# Altium schematic symbol library My Footprint.SchLib: 232 symbols (part 1 of 2)
Pins are listed as number, name and electrical type; pins without a type are passive.

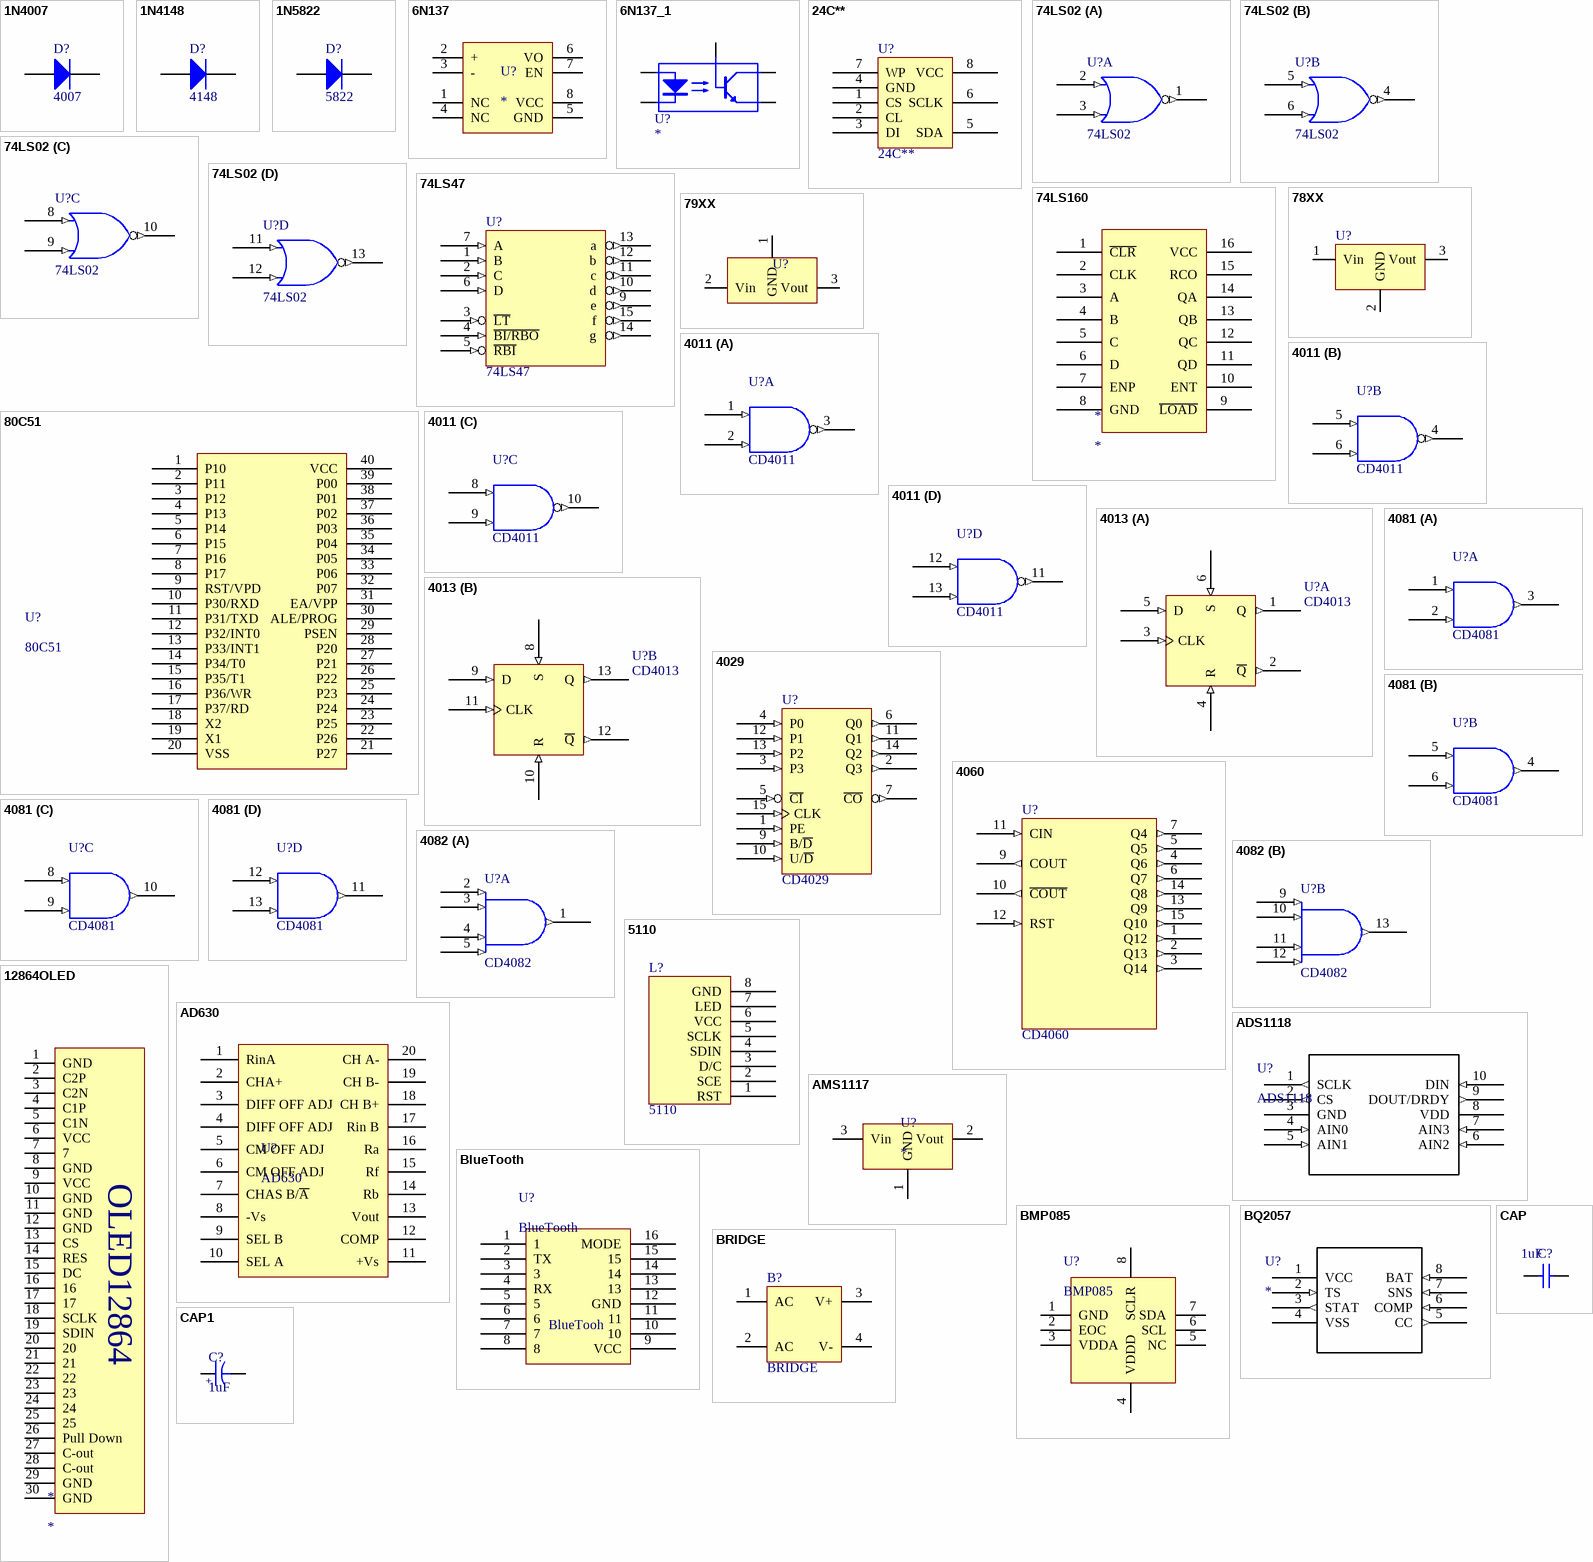
[diagram p0: symbols 1N4007 to CAP1]

## 1N4007
designator D?, comment 4007
High Conductance Fast Diode; Published: 8-Jun-2000; LatestRevisionDate: 17-Jul-2002; LatestRevisionNote: Re-released for DXP Platform.; DatasheetDocument: 1997; PackageReference: DO-35; Publisher: Altium Limited; Code_JEDEC: DO-204-AH; ComponentLink1Description: Manufacturer Link; ComponentLink1URL: http://www.fairchildsemi.com/; ComponentLink2Description: Datasheet; ComponentLink2URL: http://www.fairchildsemi.com/ds/1N%2F1N4448.pdf
footprint DIODE-4007 (1N4007)
pins: 1 A, 2 K

## 1N4148
designator D?, comment 4148
High Conductance Fast Diode; Published: 8-Jun-2000; LatestRevisionDate: 17-Jul-2002; LatestRevisionNote: Re-released for DXP Platform.; DatasheetDocument: 1997; PackageReference: DO-35; Publisher: Altium Limited; Code_JEDEC: DO-204-AH; ComponentLink1Description: Manufacturer Link; ComponentLink1URL: http://www.fairchildsemi.com/; ComponentLink2Description: Datasheet; ComponentLink2URL: http://www.fairchildsemi.com/ds/1N%2F1N4448.pdf
footprint diode-4148 (1N4148)
footprint DIODE_SOIC (Magnetic-Core Inductor with Winding Polarity Marking; 2 Leads)
pins: 1 A, 2 K

## 1N5822
designator D?, comment 5822
5822,5408,5819大的封装; Published: 8-Jun-2000; LatestRevisionDate: 17-Jul-2002; LatestRevisionNote: Re-released for DXP Platform.; DatasheetDocument: 1997; PackageReference: DO-35; Publisher: Altium Limited; Code_JEDEC: DO-204-AH; ComponentLink1Description: Manufacturer Link; ComponentLink1URL: http://www.fairchildsemi.com/; ComponentLink2Description: Datasheet; ComponentLink2URL: http://www.fairchildsemi.com/ds/1N%2F1N4448.pdf
footprint DIODE-0.7 (5822,5819,5408)
pins: 1 A, 2 K

## 6N137
designator U?
光耦
footprint dip-8
pins: 1 NC, 2 +, 3 -, 4 NC, 5 GND, 6 VO, 7 EN, 8 VCC

## 6N137_1
designator U?
Opto Isolator
simulation model 6N137 (SUBCKT)
footprint DIP6
pins: 1 LED Anode, 2 LED Cathode, 3 empty (hiz) hidden to empty, 4 Emitter, 5 Collector, 6 Base

## 24C**
designator U?
footprint DIP-8
pins: 1 CS, 2 CL, 3 DI, 4 GND, 5 SDA, 6 SCLK, 7 WP, 8 VCC

## 74LS02
designator U?
footprint DIP-14
part A pins: 1 (out), 2 (in), 3 (in)
part B pins: 4 (out), 5 (in), 6 (in)
part C pins: 8 (in), 9 (in), 10 (out)
part D pins: 7 GND (power) hidden to GND, 11 (in), 12 (in), 13 (out), 14 VCC (power) hidden to VCC

## 74LS47
designator U?
footprint DIP-16
pins: 1 B (in), 2 C (in), 3 ~{LT} (in), 4 ~{BI/RBO} (in), 5 ~{RBI} (in), 6 D (in), 7 A (in), 8 GND (power) hidden to GND, 9 e (out), 10 d (out), 11 c (out), 12 b (out), 13 a (out), 14 g (out), 15 f (out), 16 VCC (power) hidden to VCC

## 74LS160
designator *
footprint DIP-16
pins: 1 ~{CLR}, 2 CLK, 3 A, 4 B, 5 C, 6 D, 7 ENP, 8 GND, 9 ~{LOAD}, 10 ENT, 11 QD, 12 QC, 13 QB, 14 QA, 15 RCO, 16 VCC

## 78XX
designator U?  (value not drawn)
三端稳压器
footprint TO-220-3_DS (大散热片的封装)
footprint TO-220-3_SS (小散热片的封装)
pins: 1 Vin, 2 GND, 3 Vout

## 79XX
designator U?  (value not drawn)
三端稳压器
footprint TO-220-3_DS (大散热片的封装)
footprint TO-220-3_SS (小散热片的封装)
pins: 1 GND, 2 Vin, 3 Vout

## 80C51
designator U?
MCU_P40
footprint 80C51 (MCU_P40)
pins: 1 P10, 2 P11, 3 P12, 4 P13, 5 P14, 6 P15, 7 P16, 8 P17, 9 RST/VPD, 10 P30/RXD, 11 P31/TXD, 12 P32/INT0, 13 P33/INT1, 14 P34/T0, 15 P35/T1, 16 P36/WR, 17 P37/RD, 18 X2, 19 X1, 20 VSS, 21 P27, 22 P26, 23 P25, 24 P24, 25 P23, 26 P22, 27 P21, 28 P20, 29 PSEN, 30 ALE/PROG, 31 EA/VPP, 32 P07, 33 P06, 34 P05, 35 P04, 36 P03, 37 P02, 38 P01, 39 P00, 40 VCC

## 4011
designator U?, comment CD4011
footprint DIP-14
part A pins: 1 (in), 2 (in), 3 (out)
part B pins: 4 (out), 5 (in), 6 (in)
part C pins: 8 (in), 9 (in), 10 (out)
part D pins: 7 GND (power) hidden to GND, 11 (out), 12 (in), 13 (in), 14 VCC (power) hidden to VCC

## 4013
designator U?, comment CD4013
footprint DIP-14
part A pins: 1 Q (out), 2 ~{Q} (out), 3 CLK (in), 4 R (in), 5 D (in), 6 S (in), 7 GND (power) hidden to GND, 14 VCC (power) hidden to VCC
part B pins: 8 S (in), 9 D (in), 10 R (in), 11 CLK (in), 12 ~{Q} (out), 13 Q (out)

## 4029
designator U?, comment CD4029
footprint DIP-16
pins: 1 PE (in), 2 Q3 (out), 3 P3 (in), 4 P0 (in), 5 ~{CI} (in), 6 Q0 (out), 7 ~{CO} (out), 8 GND (power) hidden to GND, 9 B/~{D} (in), 10 U/~{D} (in), 11 Q1 (out), 12 P1 (in), 13 P2 (in), 14 Q2 (out), 15 CLK (in), 16 VCC (power) hidden to VCC

## 4060
designator U?, comment CD4060
footprint DIP-16
pins: 1 Q12 (out), 2 Q13 (out), 3 Q14 (out), 4 Q6 (out), 5 Q5 (out), 6 Q7 (out), 7 Q4 (out), 8 GND (power) hidden to GND, 9 COUT (out), 10 ~{COUT} (out), 11 CIN (in), 12 RST (in), 13 Q9 (out), 14 Q8 (out), 15 Q10 (out), 16 VCC (power) hidden to VCC

## 4081
designator U?, comment CD4081
footprint DIP-14
part A pins: 1 (in), 2 (in), 3 (out), 7 GND (power) hidden to GND, 14 VCC (power) hidden to VCC
part B pins: 4 (out), 5 (in), 6 (in)
part C pins: 8 (in), 9 (in), 10 (out)
part D pins: 11 (out), 12 (in), 13 (in)

## 4082
designator U?, comment CD4082
footprint DIP-14
part A pins: 1 (out), 2 (in), 3 (in), 4 (in), 5 (in)
part B pins: 7 GND (power) hidden to GND, 9 (in), 10 (in), 11 (in), 12 (in), 13 (out), 14 VCC (power) hidden to VCC

## 5110
designator L?
footprint LCD5110
pins: 1 RST, 2 SCE, 3 D/C, 4 SDIN, 5 SCLK, 6 VCC, 7 LED, 8 GND

## 12864OLED
designator *
footprint 12864OLED
pins: 1 GND, 2 C2P, 3 C2N, 4 C1P, 5 C1N, 6 VCC, 7, 8 GND, 9 VCC, 10 GND, 11 GND, 12 GND, 13 CS, 14 RES, 15 DC, 16, 17, 18 SCLK, 19 SDIN, 20, 21, 22, 23, 24, 25, 26 Pull Down, 27 C-out, 28 C-out, 29 GND, 30 GND
text: OLED12864

## AD630
designator U?
footprint DIP-20
pins: 1 RinA, 2 CHA+, 3 DIFF OFF ADJ, 4 DIFF OFF ADJ, 5 CM OFF ADJ, 6 CM OFF ADJ, 7 CHAS B/~{A}, 8 -Vs, 9 SEL B, 10 SEL A, 11 +Vs, 12 COMP, 13 Vout, 14 Rb, 15 Rf, 16 Ra, 17 Rin B, 18 CH B+, 19 CH B-, 20 CH A-

## ADS1118
designator U?
Imported; Manufacturer: Texas Instruments; INDUSTRY_STD_PKG_TYPE: MSOP; FAMILY_NAME: PRECISION ADC (<=10MSPS); PIN_COUNT: 10; PACKAGE_DESIGNATOR: DGS; Datasheet URL: http://www.ti.com/lit/gpn/ADS1118; GENERIC_PART_NUMBER: ADS1118; RefDes: RefDes; Type: DEV; Value: Value
footprint DGS10
pins: 1 SCLK (out), 2 CS (out), 3 GND (power), 4 AIN0 (in), 5 AIN1 (in), 6 AIN2 (in), 7 AIN3 (in), 8 VDD (power), 9 DOUT/DRDY (out), 10 DIN (in)

## AMS1117
designator U?
3.3V电压转换器AMS1117
footprint SOT-223 (ASM1117系列)
pins: 1 GND, 2 Vout, 3 Vin

## BlueTooth
designator U?
footprint BlueTooh
pins: 1, 2 TX, 3, 4 RX, 5, 6, 7, 8, 9 VCC, 10, 11, 12 GND, 13, 14, 15, 16 MODE
text: BlueTooh

## BMP085
designator U?
footprint LCC-8
pins: 1 GND, 2 EOC, 3 VDDA, 4 VDDD, 5 NC, 6 SCL, 7 SDA, 8 SCLR

## BQ2057
designator U?
Imported; Manufacturer: Texas Instruments; GENERIC_PART_NUMBER: BQ2057; INDUSTRY_STD_PKG_TYPE: SOIC; FAMILY_NAME: BATTERY CHARGE MANAGEMENT; PIN_COUNT: 8; PACKAGE_DESIGNATOR: D; Datasheet URL: http://www.ti.com/lit/gpn/BQ2057; RefDes: RefDes; Type: DEV; Value: Value
footprint SOIC-8N (SOIC, 8-Leads, Body 4.9x3.9mm, Pitch 1.27mm, IPC Medium Density)
pins: 1 VCC (power), 2 TS (in), 3 STAT (out), 4 VSS (power), 5 CC (out), 6 COMP (in), 7 SNS (in), 8 BAT (in)

## BRIDGE
designator B?
Diode Bridge
footprint BRIDGE
pins: 1 AC, 2 AC, 3 V+, 4 V-
2 alternate drawings of the same symbol

## CAP
designator C?, comment 1uF
Capacitor; Value: 104; Published: 8-Jun-2000; LatestRevisionDate: 17-Jul-2002; LatestRevisionNote: Re-released for DXP Platform.; PackageReference: RAD-0.3; Publisher: Altium Limited
footprint 0805_c
footprint 0603_C (Capacitor)
footprint CD1 (瓷片、独石)
footprint 安规电容
pins: 1, 2

## CAP1
designator C?, comment 1uF
footprint CD1 (瓷片、独石)
footprint CD2 (CBB)
footprint CD4 (1uF50V大小)
footprint CD7 (680uF容值以下耐压25V)
footprint CD9 (1000uF电容25V左右)
footprint CD10 (1000uF35V耐压)
footprint CD12 (2200uF 及以上35V以上耐压)
footprint CD15
pins: 1, 2
text: +

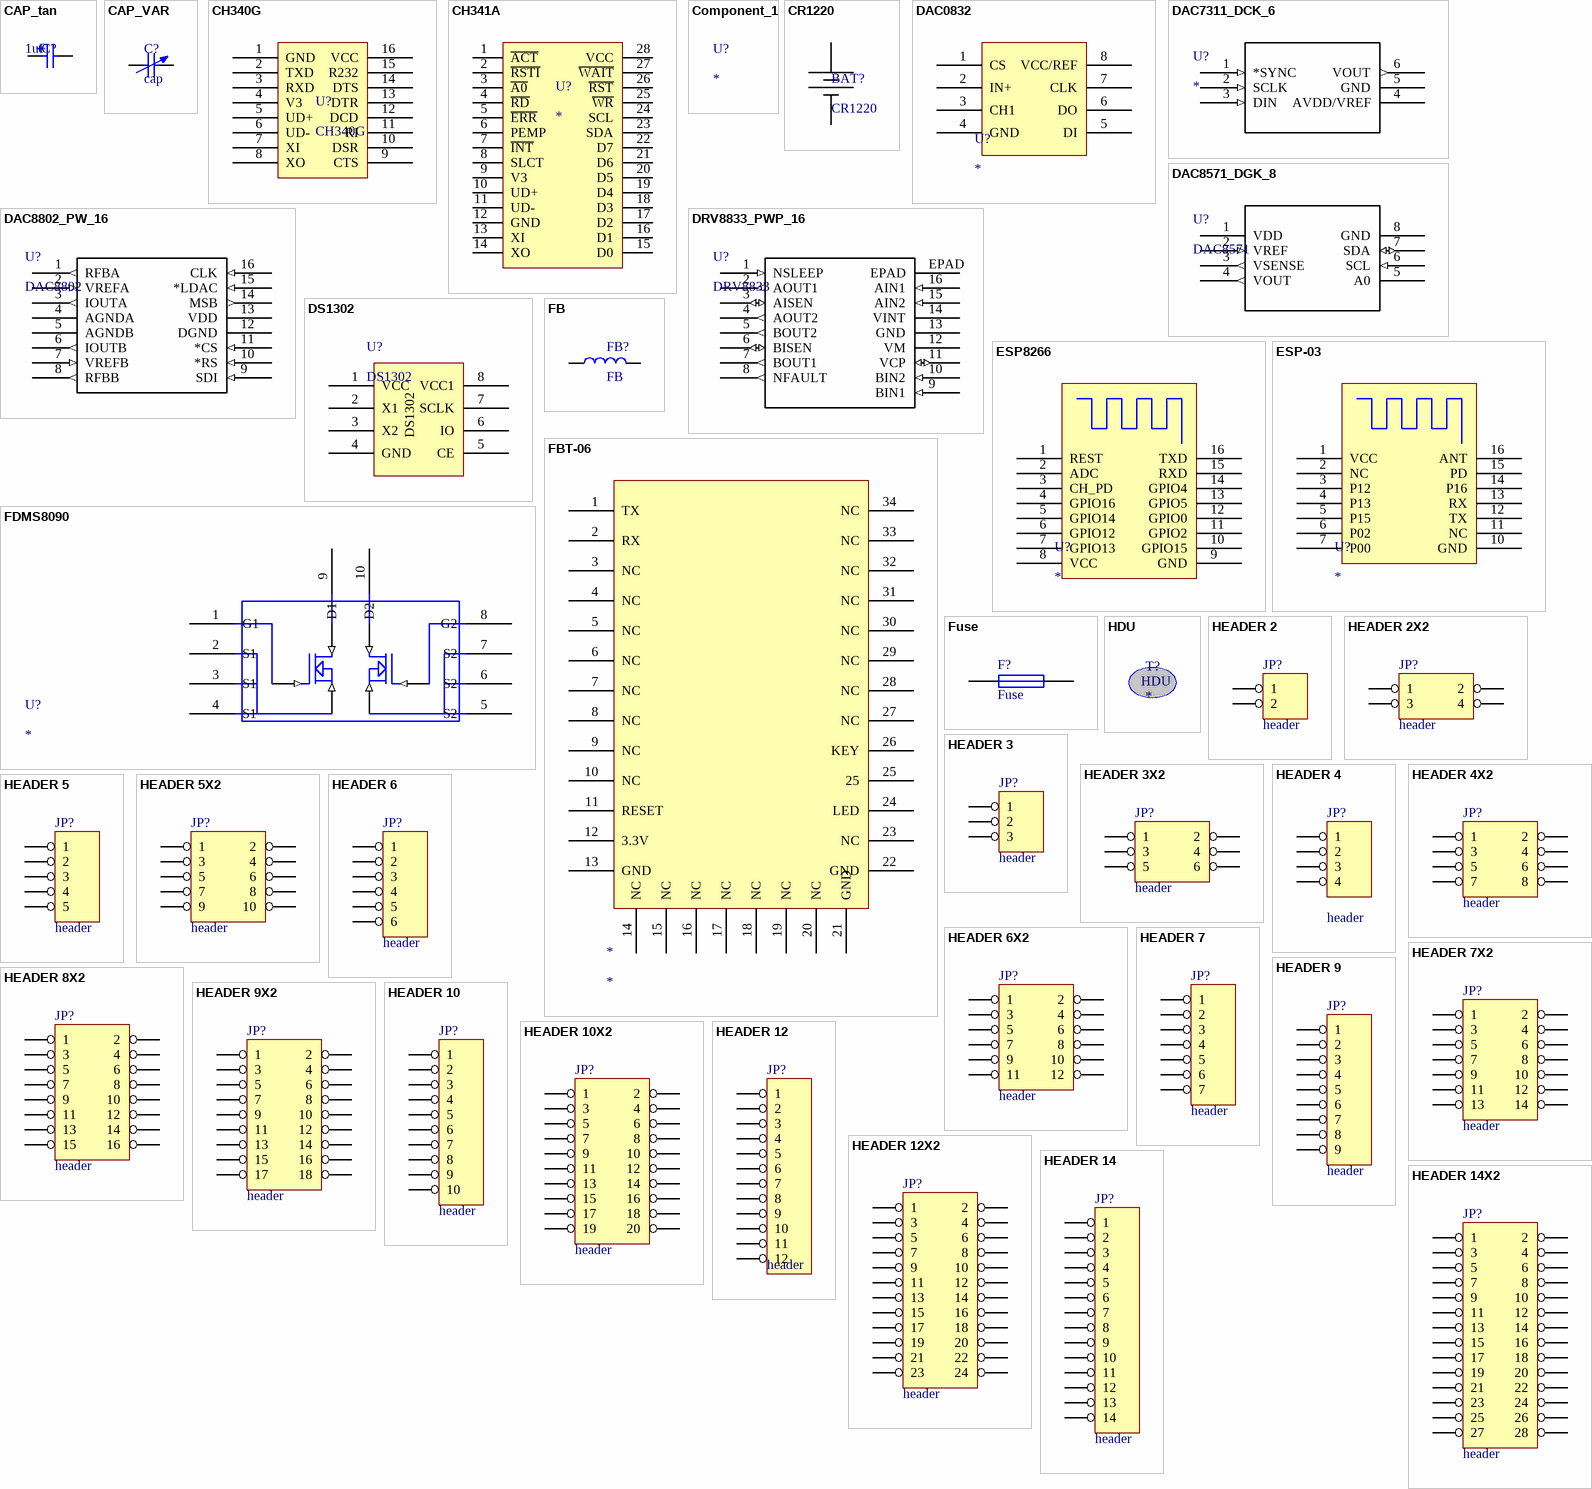
[diagram p1: symbols CAP_tan to HEADER 14X2]

## CAP_tan
designator C?, comment 1uF
Capacitor; Value: 104; Published: 8-Jun-2000; LatestRevisionDate: 17-Jul-2002; LatestRevisionNote: Re-released for DXP Platform.; PackageReference: RAD-0.3; Publisher: Altium Limited
footprint CAPC3216A
footprint CAPC3528B
footprint CAPC6032C
footprint CAPC7343D
footprint CAPC7343E
pins: 1, 2

## CAP_VAR
designator C?, comment cap
footprint CAP_VAR
pins: 1, 2

## CH340G
designator U?
SOIC
footprint SOIC-16
pins: 1 GND, 2 TXD, 3 RXD, 4 V3, 5 UD+, 6 UD-, 7 XI, 8 XO, 9 CTS, 10 DSR, 11 RI, 12 DCD, 13 DTR, 14 DTS, 15 R232, 16 VCC

## CH341A
designator U?
footprint SOP28
footprint SOP28
pins: 1 ~{ACT}, 2 ~{RSTI}, 3 ~{A0}, 4 ~{RD}, 5 ~{ERR}, 6 PEMP, 7 ~{INT}, 8 SLCT, 9 V3, 10 UD+, 11 UD-, 12 GND, 13 XI, 14 XO, 15 D0, 16 D1, 17 D2, 18 D3, 19 D4, 20 D5, 21 D6, 22 D7, 23 SDA, 24 SCL, 25 ~{WR}, 26 ~{RST}, 27 ~{WAIT}, 28 VCC

## Component_1
designator U?

## CR1220
designator BAT?
footprint 纽扣电池座CR1220 (小的)
pins: 1 BAT+, 2 BAT-

## DAC0832
designator U?
footprint DIP-8
pins: 1 CS, 2 IN+, 3 CH1, 4 GND, 5 DI, 6 DO, 7 CLK, 8 VCC/REF

## DAC7311_DCK_6
designator U?
Imported; Manufacturer: Texas Instruments; GENERIC_PART_NUMBER: DAC7311; Manufacturer_Part_Number: dac7311_dck_6; INDUSTRY_STD_PKG_TYPE: SC70; FAMILY_NAME: PRECISION DAC (=<10MSPS); PIN_COUNT: 6; PACKAGE_DESIGNATOR: DCK; Datasheet URL: http://www.ti.com/lit/gpn/DAC7311; Vendor: Texas Instruments; RefDes: RefDes; Type: DEV; Value: Value
footprint DCK6
pins: 1 *SYNC (in), 2 SCLK (in), 3 DIN (in), 4 AVDD/VREF (power), 5 GND (power), 6 VOUT (out)

## DAC8571_DGK_8
designator U?, comment DAC8571
Imported; Manufacturer: Texas Instruments; Manufacturer_Part_Number: dac8571_dgk_8; INDUSTRY_STD_PKG_TYPE: MSOP; FAMILY_NAME: PRECISION DAC (=<10MSPS); PIN_COUNT: 8; PACKAGE_DESIGNATOR: DGK; Datasheet URL: http://www.ti.com/lit/gpn/DAC8571; GENERIC_PART_NUMBER: DAC8571; Vendor: Texas Instruments; RefDes: RefDes; Type: DEV; Value: Value
footprint DGK8
pins: 1 VDD (power), 2 VREF (in), 3 VSENSE (out), 4 VOUT (out), 5 A0, 6 SCL (in), 7 SDA (io), 8 GND (power)

## DAC8802_PW_16
designator U?, comment DAC8802
Imported; Manufacturer: Texas Instruments; Manufacturer_Part_Number: dac8802_pw_16; INDUSTRY_STD_PKG_TYPE: TSSOP; FAMILY_NAME: PRECISION DAC (=<10MSPS); PIN_COUNT: 16; PACKAGE_DESIGNATOR: PW; Datasheet URL: http://www.ti.com/lit/gpn/DAC8802; GENERIC_PART_NUMBER: DAC8802; Vendor: Texas Instruments; RefDes: RefDes; Type: DEV; Value: Value
footprint PW16
pins: 1 RFBA (out), 2 VREFA (in), 3 IOUTA (out), 4 AGNDA (power), 5 AGNDB (power), 6 IOUTB (out), 7 VREFB (in), 8 RFBB (out), 9 SDI (in), 10 *RS (in), 11 *CS (in), 12 DGND (power), 13 VDD (power), 14 MSB (out), 15 *LDAC (in), 16 CLK (in)

## DRV8833_PWP_16
designator U?, comment DRV8833
Imported; Manufacturer: Texas Instruments; Manufacturer_Part_Number: drv8833_pwp_16; INDUSTRY_STD_PKG_TYPE: HTSSOP; FAMILY_NAME: BRUSHED DC DRIVER; PIN_COUNT: 16; PACKAGE_DESIGNATOR: PWP; Datasheet URL: http://www.ti.com/lit/gpn/DRV8833; GENERIC_PART_NUMBER: DRV8833; Vendor: Texas Instruments; RefDes: RefDes; Type: DEV; Value: Value
footprint PWP16
pins: 1 NSLEEP (in), 2 AOUT1 (out), 3 AISEN (io), 4 AOUT2 (out), 5 BOUT2 (out), 6 BISEN (io), 7 BOUT1 (out), 8 NFAULT (out), 9 BIN1 (in), 10 BIN2 (in), 11 VCP (io), 12 VM (power), 13 GND (power), 14 VINT (power), 15 AIN2 (in), 16 AIN1 (in), EPAD

## DS1302
designator U?
footprint SOIC-8
pins: 1 VCC, 2 X1, 3 X2, 4 GND, 5 CE, 6 IO, 7 SCLK, 8 VCC1

## ESP8266
designator U?
footprint ESP8266
pins: 1 REST, 2 ADC, 3 CH_PD, 4 GPIO16, 5 GPIO14, 6 GPIO12, 7 GPIO13, 8 VCC, 9 GND, 10 GPIO15, 11 GPIO2, 12 GPIO0, 13 GPIO5, 14 GPIO4, 15 RXD, 16 TXD

## ESP-03
designator U?
footprint ESP-03
pins: 1 VCC, 2 NC, 3 P12, 4 P13, 5 P15, 6 P02, 7 P00, 10 GND, 11 NC, 12 TX, 13 RX, 14 P16, 15 PD, 16 ANT

## FB
designator FB?
磁珠
footprint 0603
footprint 0805
pins: 1, 2

## FBT-06
designator *
footprint FBT-06
pins: 1 TX, 2 RX, 3 NC, 4 NC, 5 NC, 6 NC, 7 NC, 8 NC, 9 NC, 10 NC, 11 RESET, 12 3.3V, 13 GND, 14 NC, 15 NC, 16 NC, 17 NC, 18 NC, 19 NC, 20 NC, 21 GND, 22 GND, 23 NC, 24 LED, 25, 26 KEY, 27 NC, 28 NC, 29 NC, 30 NC, 31 NC, 32 NC, 33 NC, 34 NC

## FDMS8090
designator U?
pins: 1 G (in), 1 G (in), 1 G1, 2 D (in), 2 D (in), 2 S1, 3 S (in), 3 S (in), 3 S1, 4 S1, 5 S2, 6 S2, 7 S2, 8 G2, 9 D1, 10 D2

## Fuse
designator F?
Published: 8-Jun-2000; LatestRevisionDate: 17-Jul-2002; LatestRevisionNote: Re-released for DXP Platform.; PackageReference: PIN-W2/E2.8; Publisher: Altium Limited
footprint fuse
footprint 1206
footprint 0805
pins: 1, 2

## HDU
designator T?
footprint HDU

## HEADER 2
designator JP?, comment header
footprint header2
footprint header2HA
pins: 1, 2

## HEADER 2X2
designator JP?, comment header
footprint header2X2
footprint header2X2HA
pins: 1, 2, 3, 4

## HEADER 3
designator JP?, comment header
footprint header3
footprint header3HA
pins: 1, 2, 3

## HEADER 3X2
designator JP?, comment header
footprint header2X3
footprint header2X3HA
pins: 1, 2, 3, 4, 5, 6

## HEADER 4
designator JP?, comment header
footprint header4
pins: 1, 2, 3, 4

## HEADER 4X2
designator JP?, comment header
footprint header2X4
footprint header2X4HA
pins: 1, 2, 3, 4, 5, 6, 7, 8

## HEADER 5
designator JP?, comment header
footprint header5
footprint header5HA
pins: 1, 2, 3, 4, 5

## HEADER 5X2
designator JP?, comment header
footprint header2X5HA
footprint header2X5
pins: 1, 2, 3, 4, 5, 6, 7, 8, 9, 10

## HEADER 6
designator JP?, comment header
footprint header6HA
footprint header6
pins: 1, 2, 3, 4, 5, 6

## HEADER 6X2
designator JP?, comment header
footprint header2X6HA
footprint header2X6
pins: 1, 2, 3, 4, 5, 6, 7, 8, 9, 10, 11, 12

## HEADER 7
designator JP?, comment header
footprint header7HA
footprint header7
pins: 1, 2, 3, 4, 5, 6, 7

## HEADER 7X2
designator JP?, comment header
footprint header2X7HA
footprint header2X7
pins: 1, 2, 3, 4, 5, 6, 7, 8, 9, 10, 11, 12, 13, 14

## HEADER 8X2
designator JP?, comment header
footprint header2X8HA
footprint header2X8
pins: 1, 2, 3, 4, 5, 6, 7, 8, 9, 10, 11, 12, 13, 14, 15, 16

## HEADER 9
designator JP?, comment header
footprint header9HA
footprint header9
pins: 1, 2, 3, 4, 5, 6, 7, 8, 9

## HEADER 9X2
designator JP?, comment header
footprint header2X9HA
footprint header2X9
pins: 1, 2, 3, 4, 5, 6, 7, 8, 9, 10, 11, 12, 13, 14, 15, 16, 17, 18

## HEADER 10
designator JP?, comment header
footprint header10HA
footprint header10
pins: 1, 2, 3, 4, 5, 6, 7, 8, 9, 10

## HEADER 10X2
designator JP?, comment header
footprint header2X10HA
footprint header2X10
pins: 1, 2, 3, 4, 5, 6, 7, 8, 9, 10, 11, 12, 13, 14, 15, 16, 17, 18, 19, 20

## HEADER 12
designator JP?, comment header
footprint header12HA
footprint header12
pins: 1, 2, 3, 4, 5, 6, 7, 8, 9, 10, 11, 12

## HEADER 12X2
designator JP?, comment header
footprint header2X12HA
footprint header2X12
pins: 1, 2, 3, 4, 5, 6, 7, 8, 9, 10, 11, 12, 13, 14, 15, 16, 17, 18, 19, 20, 21, 22, 23, 24

## HEADER 14
designator JP?, comment header
footprint header14HA
footprint header14
pins: 1, 2, 3, 4, 5, 6, 7, 8, 9, 10, 11, 12, 13, 14

## HEADER 14X2
designator JP?, comment header
footprint header2X14HA
footprint header2X14
pins: 1, 2, 3, 4, 5, 6, 7, 8, 9, 10, 11, 12, 13, 14, 15, 16, 17, 18, 19, 20, 21, 22, 23, 24, 25, 26, 27, 28

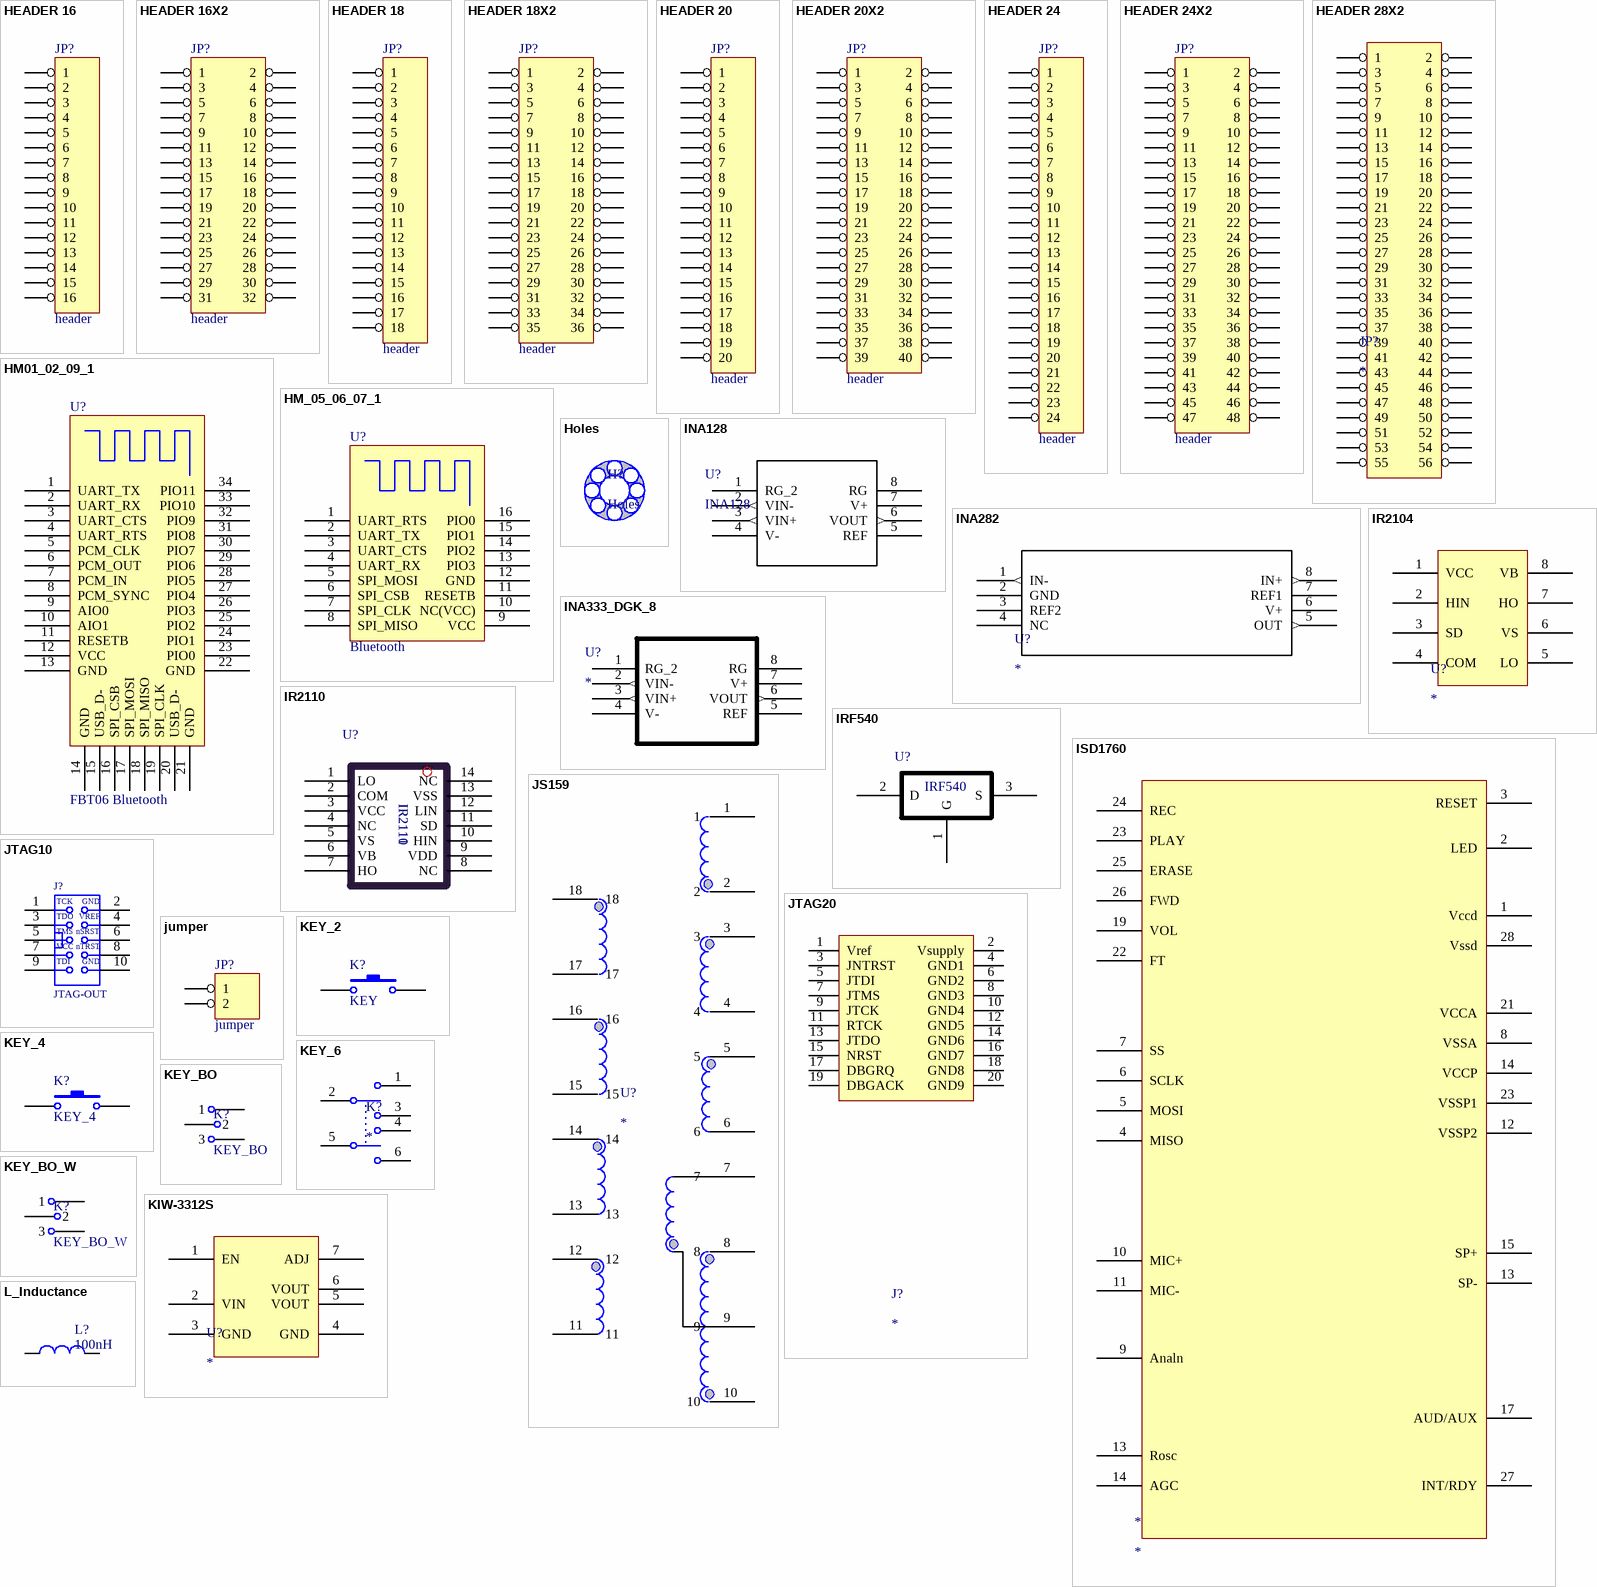
[diagram p2: symbols HEADER 16 to L_Inductance]

## HEADER 16
designator JP?, comment header
footprint header16
pins: 1, 2, 3, 4, 5, 6, 7, 8, 9, 10, 11, 12, 13, 14, 15, 16

## HEADER 16X2
designator JP?, comment header
footprint header2X16HA
footprint header2X16
pins: 1, 2, 3, 4, 5, 6, 7, 8, 9, 10, 11, 12, 13, 14, 15, 16, 17, 18, 19, 20, 21, 22, 23, 24, 25, 26, 27, 28, 29, 30, 31, 32

## HEADER 18
designator JP?, comment header
footprint header18_m
pins: 1, 2, 3, 4, 5, 6, 7, 8, 9, 10, 11, 12, 13, 14, 15, 16, 17, 18

## HEADER 18X2
designator JP?, comment header
footprint header2X18HA
footprint header2X18
pins: 1, 2, 3, 4, 5, 6, 7, 8, 9, 10, 11, 12, 13, 14, 15, 16, 17, 18, 19, 20, 21, 22, 23, 24, 25, 26, 27, 28, 29, 30, 31, 32, 33, 34, 35, 36

## HEADER 20
designator JP?, comment header
footprint header20HA
footprint header20
pins: 1, 2, 3, 4, 5, 6, 7, 8, 9, 10, 11, 12, 13, 14, 15, 16, 17, 18, 19, 20

## HEADER 20X2
designator JP?, comment header
footprint header2X20HA
footprint header2X20
pins: 1, 2, 3, 4, 5, 6, 7, 8, 9, 10, 11, 12, 13, 14, 15, 16, 17, 18, 19, 20, 21, 22, 23, 24, 25, 26, 27, 28, 29, 30, 31, 32, 33, 34, 35, 36, 37, 38, 39, 40

## HEADER 24
designator JP?, comment header
pins: 1, 2, 3, 4, 5, 6, 7, 8, 9, 10, 11, 12, 13, 14, 15, 16, 17, 18, 19, 20, 21, 22, 23, 24

## HEADER 24X2
designator JP?, comment header
footprint header2X24
pins: 1, 2, 3, 4, 5, 6, 7, 8, 9, 10, 11, 12, 13, 14, 15, 16, 17, 18, 19, 20, 21, 22, 23, 24, 25, 26, 27, 28, 29, 30, 31, 32, 33, 34, 35, 36, 37, 38, 39, 40, 41, 42, 43, 44, 45, 46, 47, 48

## HEADER 28X2
designator JP?
footprint 201S2X28
pins: 1, 2, 3, 4, 5, 6, 7, 8, 9, 10, 11, 12, 13, 14, 15, 16, 17, 18, 19, 20, 21, 22, 23, 24, 25, 26, 27, 28, 29, 30, 31, 32, 33, 34, 35, 36, 37, 38, 39, 40, 41, 42, 43, 44, 45, 46, 47, 48, 49, 50, 51, 52, 53, 54, 55, 56

## HM01_02_09_1
designator U?, comment FBT06 Bluetooth
HM bluetooth FBT06
footprint HM_01_02 (www.jnhuamao.cn)
pins: 1 UART_TX, 2 UART_RX, 3 UART_CTS, 4 UART_RTS, 5 PCM_CLK, 6 PCM_OUT, 7 PCM_IN, 8 PCM_SYNC, 9 AIO0, 10 AIO1, 11 RESETB, 12 VCC, 13 GND, 14 GND, 15 USB_D-, 16 SPI_CSB, 17 SPI_MOSI, 18 SPI_MISO, 19 SPI_CLK, 20 USB_D-, 21 GND, 22 GND, 23 PIO0, 24 PIO1, 25 PIO2, 26 PIO3, 27 PIO4, 28 PIO5, 29 PIO6, 30 PIO7, 31 PIO8, 32 PIO9, 33 PIO10, 34 PIO11

## HM_05_06_07_1
designator U?, comment Bluetooth
HM bluetooth module HM-05,HM-06,HM-07
footprint HM_05_06 (www.jnhuamao.cn)
pins: 1 UART_RTS, 2 UART_TX, 3 UART_CTS, 4 UART_RX, 5 SPI_MOSI, 6 SPI_CSB, 7 SPI_CLK, 8 SPI_MISO, 9 VCC, 10 NC(VCC), 11 RESETB, 12 GND, 13 PIO3, 14 PIO2, 15 PIO1, 16 PIO0

## Holes
designator H?
holes in the corner of the bord
footprint 定位孔 Φ3 1

## INA128
designator U?
Imported
footprint DIP-8
footprint SOIC-8
pins: 1 RG_2, 2 VIN- (out), 3 VIN+ (out), 4 V- (power), 5 REF, 6 VOUT (out), 7 V+ (power), 8 RG

## INA282
designator U?
footprint INA282
pins: 1 IN- (out), 2 GND (power), 3 REF2, 4 NC, 5 OUT (out), 6 V+ (power), 7 REF1, 8 IN+ (out)

## INA333_DGK_8
designator U?
Imported
footprint DGK8
pins: 1 RG_2, 2 VIN- (out), 3 VIN+ (out), 4 V- (power), 5 REF, 6 VOUT (out), 7 V+ (power), 8 RG

## IR2104
designator U?
pins: 1 VCC, 2 HIN, 3 SD, 4 COM, 5 LO, 6 VS, 7 HO, 8 VB

## IR2110
designator U?  (value not drawn)
footprint DIP-14
pins: 1 LO, 2 COM, 3 VCC, 4 NC, 5 VS, 6 VB, 7 HO, 8 NC, 9 VDD, 10 HIN, 11 SD, 12 LIN, 13 VSS, 14 NC
text: IR2111

## IRF540
designator U?  (value not drawn)
footprint TO220 (MOS 功率三极管封装)
pins: 1 G, 2 D, 3 S

## ISD1760
designator *
footprint N028 (DIP; 28 Leads; Row Spacing 15.24 mm; Pitch 2.54 mm)
pins: 1 Vccd, 2 LED, 3 RESET, 4 MISO, 5 MOSI, 6 SCLK, 7 SS, 8 VSSA, 9 Analn, 10 MIC+, 11 MIC-, 12 VSSP2, 13 Rosc, 13 SP-, 14 AGC, 14 VCCP, 15 SP+, 17 AUD/AUX, 19 VOL, 21 VCCA, 22 FT, 23 PLAY, 23 VSSP1, 24 REC, 25 ERASE, 26 FWD, 27 INT/RDY, 28 Vssd

## JS159
designator U?
pins: 1, 2, 3, 4, 5, 6, 7, 8, 9, 10, 11, 12, 13, 14, 15, 16, 17, 18

## JTAG10
designator J?, comment JTAG-OUT
接插件
footprint JTAG10 (AVR FPGA)
pins: 1, 2, 3, 4, 5, 6, 7, 8, 9, 10
text: TCK; GND; TDO; VREF; TMS; nSRST; VCC; nTRST; TDI

## JTAG20
designator J?
接插件
footprint JTAG20 (JLINK)
pins: 1 Vref, 2 Vsupply, 3 JNTRST, 4 GND1, 5 JTDI, 6 GND2, 7 JTMS, 8 GND3, 9 JTCK, 10 GND4, 11 RTCK, 12 GND5, 13 JTDO, 14 GND6, 15 NRST, 16 GND7, 17 DBGRQ, 18 GND8, 19 DBGACK, 20 GND9

## jumper
designator JP?
t跳线帽
footprint header2_jumper (跳线帽)
pins: 1, 2

## KEY_2
designator K?, comment KEY
Switch; Published: 24-Mar-1999; LatestRevisionDate: 17-Jul-2002; LatestRevisionNote: Re-released for DXP Platform.; PackageReference: SPST-2; Publisher: Altium Limited
footprint KEY_2 (贴片)
pins: 1, 2

## KEY_4
designator K?
Switch; Published: 24-Mar-1999; LatestRevisionDate: 17-Jul-2002; LatestRevisionNote: Re-released for DXP Platform.; PackageReference: SPST-2; Publisher: Altium Limited
footprint KEY_4
pins: 1, 2

## KEY_6
designator K?
footprint KEY_6
pins: 1, 2 1, 3, 4, 5, 6

## KEY_BO
designator K?
Switch; Published: 24-Mar-1999; LatestRevisionDate: 17-Jul-2002; LatestRevisionNote: Re-released for DXP Platform.; PackageReference: SPST-2; Publisher: Altium Limited
footprint KEY_BO (一选二的开关)
pins: 1, 2, 3

## KEY_BO_W
designator K?
Switch; Published: 24-Mar-1999; LatestRevisionDate: 17-Jul-2002; LatestRevisionNote: Re-released for DXP Platform.; PackageReference: SPST-2; Publisher: Altium Limited
footprint KEY_BO_W (one of two)
pins: 1, 2, 3

## KIW-3312S
designator U?
footprint KIW-3312S
pins: 1 EN, 2 VIN, 3 GND, 4 GND, 5 VOUT, 6 VOUT, 7 ADJ

## L_Inductance
designator L?, comment 100nH
footprint L_3 (12*12)
footprint 1206
footprint 0805
footprint 直插电感 (L?)
pins: 1, 2

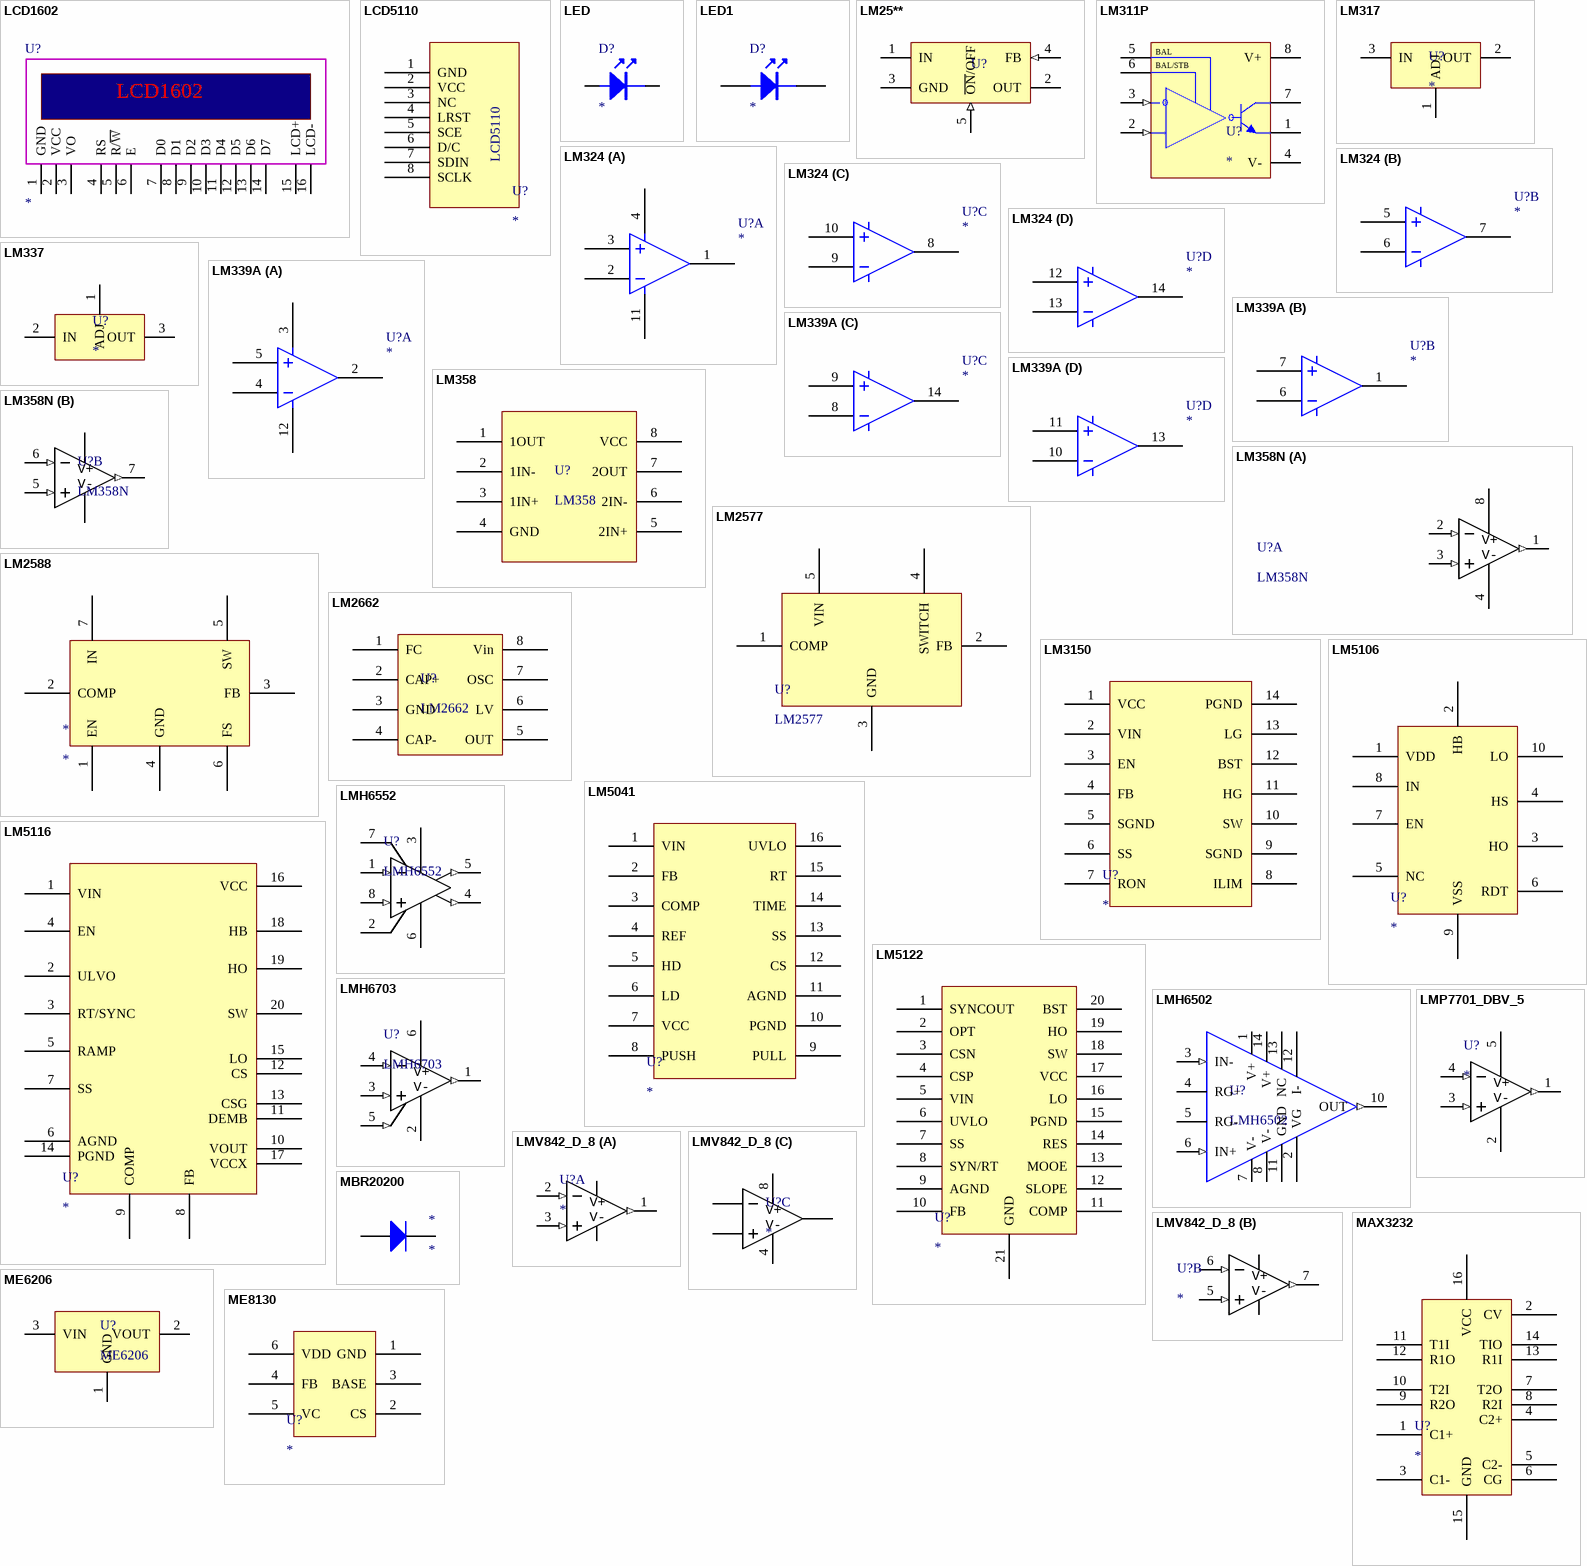
[diagram p3: symbols LCD1602 to ME8130]

## LCD1602
designator U?
footprint LCD1602
pins: 1 GND, 2 VCC, 3 VO, 4 RS, 5 R/~{W}, 6 E, 7 D0, 8 D1, 9 D2, 10 D3, 11 D4, 12 D5, 13 D6, 14 D7, 15 LCD+, 16 LCD-

## LCD5110
designator U?
footprint LCD5110
pins: 1 GND, 2 VCC, 3 NC, 4 LRST, 5 SCE, 6 D/C, 7 SDIN, 8 SCLK

## LED
designator D?
LED 发光二极管
footprint 0805_LED
footprint 0603_LED
pins: 1 A, 2 K

## LED1
designator D?
footprint LED_small
pins: 1 A, 2 K

## LM25**
designator U?  (value not drawn)
LM2576,2596; Note: Tab is connected to GND; Published: 15-Apr-2002; Datasheet: Latest Revision: Jun-1999; Package Reference: TS5B; Publisher: Altium Limited
footprint TO-220-5_DS (大散热片的封装)
footprint TO-220-5_SS (小散热片的封装)
footprint LM2596
footprint LM2596
footprint LM2596
pins: 1 IN (power), 2 OUT (power), 3 GND (power), 4 FB (in), 5 ~{ON}/OFF (in)

## LM311P
designator U?
footprint DIP-8 (DIP; 8 Leads; Row Spacing 7.62 mm; Pitch 2.54 mm)
pins: 1 EM OUT, 2 IN+ (in), 3 IN- (in), 4 V- (power), 5 BAL, 6 BAL/STB, 7 COL OUT, 8 V+ (power)

## LM317
designator U?
footprint TO-220-3_DS (大散热片的封装)
footprint TO-220-3_sS (小散热片的封装)
pins: 1 ADJ, 2 OUT, 3 IN

## LM324
designator U?
footprint DIP-14
part A pins: 1, 2, 3, 4, 11
part B pins: 5, 6, 7
part C pins: 8, 9, 10
part D pins: 12, 13, 14

## LM337
designator U?
footprint TO-220-3_DS (大散热片的封装)
pins: 1 ADJ, 2 IN, 3 OUT

## LM339A
designator U?
footprint DIP-14
part A pins: 2, 3, 4, 5, 12
part B pins: 1, 6, 7
part C pins: 8, 9, 14
part D pins: 10, 11, 13

## LM358
designator U?
footprint DIP-8
footprint SOIC-8
pins: 1 1OUT, 2 1IN-, 3 1IN+, 4 GND, 5 2IN+, 6 2IN-, 7 2OUT, 8 VCC

## LM358N
designator U?
footprint DIP-8
footprint SOIC-8
part A pins: 1 1OUT (out), 2 1IN- (in), 3 1IN+ (in), 4 V- (power), 8 V+ (power)
part B pins: 5 2IN+ (in), 6 2IN- (in), 7 2OUT (out)

## LM2577
designator U?
footprint LM2596
pins: 1 COMP, 2 FB, 3 GND, 4 SWITCH, 5 VIN

## LM2588
designator *
pins: 1 EN, 2 COMP, 3 FB, 4 GND, 5 SW, 6 FS, 7 IN

## LM2662
designator U?
开关电容器电压转换器
footprint SOIC-8
pins: 1 FC, 2 CAP+, 3 GND, 4 CAP-, 5 OUT, 6 LV, 7 OSC, 8 Vin

## LM3150
designator U?
pins: 1 VCC, 2 VIN, 3 EN, 4 FB, 5 SGND, 6 SS, 7 RON, 8 ILIM, 9 SGND, 10 SW, 11 HG, 12 BST, 13 LG, 14 PGND

## LM5041
designator U?
footprint TSSOP16
pins: 1 VIN, 2 FB, 3 COMP, 4 REF, 5 HD, 6 LD, 7 VCC, 8 PUSH, 9 PULL, 10 PGND, 11 AGND, 12 CS, 13 SS, 14 TIME, 15 RT, 16 UVLO

## LM5106
designator U?
pins: 1 VDD, 2 HB, 3 HO, 4 HS, 5 NC, 6 RDT, 7 EN, 8 IN, 9 VSS, 10 LO

## LM5116
designator U?
pins: 1 VIN, 2 ULVO, 3 RT/SYNC, 4 EN, 5 RAMP, 6 AGND, 7 SS, 8 FB, 9 COMP, 10 VOUT, 11 DEMB, 12 CS, 13 CSG, 14 PGND, 15 LO, 16 VCC, 17 VCCX, 18 HB, 19 HO, 20 SW

## LM5122
designator U?
footprint LM5122
pins: 1 SYNCOUT, 2 OPT, 3 CSN, 4 CSP, 5 VIN, 6 UVLO, 7 SS, 8 SYN/RT, 9 AGND, 10 FB, 11 COMP, 12 SLOPE, 13 MOOE, 14 RES, 15 PGND, 16 LO, 17 VCC, 18 SW, 19 HO, 20 BST, 21 GND

## LMH6502
designator U?
footprint SOIC-14
pins: 1 V+, 2 VG, 3 IN- (in), 4 RG+ (oc), 5 RG- (oc), 6 IN+ (in), 7 V- (power), 8 V- (power), 10 OUT (out), 11 GND (oc), 12 I-, 13 NC, 14 V+

## LMH6552
designator U?
Imported; PartNumber: LMH6552SD; Manufacturer: NationalSemiconductor; CompType: Amplifiers; PackageTopMarking: XYTT6552; ComponentLink1DescBC: LMH6552Datasheet; ComponentLink2DescA4: LMH6552WebPage; ComponentLink3DescAC: SDA08CPackagePage; RefDes: RefDes; Type: DEV; Value: Value; Published: 4-Dec-2008; LatestRevisionDate: 13-Jan-2009; LatestRevisionNote: SimModelAdded; DatasheetVersion: Sep-2007; PackageVersion: revAJan-2004; PackageReference: SDA08C; Publisher: AltiumLimited; PackageDescription: LLPPlasticDual25x30x08mmBody8Lead05mmPitchNoPullback; RoHS: Y; PinCount: 8; DigiKeyPartNumber: LMH6552SDEVAL-ND; ComponentLink1URL: http//wwwnationalcom/ds/LM/LMH6552pdf; ComponentLink2URL: http//wwwnationalcom/pf/LM/LMH6552html; ComponentLink3URL: http//wwwnationalcom/packaging/folders/sda08chtml
footprint SOIC-8
pins: 1 IN- (in), 2 VCM, 3 V+ (power), 4 OUT+ (out), 5 OUT- (out), 6 V- (power), 7 EN, 8 IN+ (in)

## LMH6703
designator U?
Imported; Manufacturer: NationalSemiconductor; Value: LMH6703MF; Characteristics: LMH6703MF12GHzLowDistortionOpAmpwithShutdown; CompType: OpAmpIC; TaMin_C: -400; TaMax_C: 850; ComponentLink1DescBC: LMH6703Datasheet; ComponentLink2DescA4: LMH6703WebPage; ComponentLink3DescAC: MF06APackageWebPage; SymbolVersion: 2008-07-09; PartNumber: LMH6703MF; PackageDescription: 6LeadSOT-23; PackageReference: MF06A_L; RoHS: O; ComponentLink1URL: http//wwwnationalcom/ds/LM/LMH6703pdf; ComponentLink2URL: http//wwwnationalcom/pf/LM/LMH6703html; ComponentLink3URL: http//wwwnationalcom/packaging/folders/mf06ahtml; Version: B1608; LatestRevisionDate: 2009-03-16; LatestRevisionNote: MassUpdate; Publisher: NationalSemiconductor; Published: 2009-03-16
footprint DBV6
pins: 1 OUT (out), 2 V- (power), 3 IN+ (in), 4 IN- (in), 5 SD (in), 6 V+ (power)

## LMP7701_DBV_5
designator U?
Imported; Manufacturer: NationalSemiconductor; Value: LMP7701MF; Characteristics: LMP7701MFPrecisionSingleCMOSInputR-RI/O12VOpAmp; CompType: OpAmpIC; TaMin_C: -400; TaMax_C: 1250; ComponentLink1DescBC: LMP7701Datasheet; ComponentLink2DescA4: LMP7701WebPage; ComponentLink3DescAC: MF05APackageWebPage; SymbolVersion: 2008-07-09; PartNumber: LMP7701MF; PackageDescription: 5LeadSOT-23; PackageReference: MF05A_L; RoHS: O; ComponentLink1URL: http//wwwnationalcom/ds/LM/LMP7701pdf; ComponentLink2URL: http//wwwnationalcom/pf/LM/LMP7701html; ComponentLink3URL: http//wwwnationalcom/packaging/folders/mf05ahtml; Version: B1608; LatestRevisionDate: 2009-03-16; LatestRevisionNote: MassUpdate; Publisher: NationalSemiconductor; Published: 2009-03-16
footprint DBV5
pins: 1 OUT (out), 2 V- (power), 3 IN+ (in), 4 IN- (in), 5 V+ (power)

## LMV842_D_8
designator U?
Imported; RefDes: RefDes; Type: DEV; Value: Value
footprint SOIC-8N (SOIC, 8-Leads, Body 4.9x3.9mm, Pitch 1.27mm, IPC Medium Density)
part A pins: 1 OUTA (out), 2 INA- (in), 3 INA+ (in)
part B pins: 5 INB+ (in), 6 INB- (in), 7 OUTB (out)
part C pins: 4 V- (power), 8 V+ (power)

## MAX3232
designator U?
pins: 1 C1+, 2 CV, 3 C1-, 4 C2+, 5 C2-, 6 CG, 7 T2O, 8 R2I, 9 R2O, 10 T2I, 11 T1I, 12 R1O, 13 R1I, 14 TIO, 15 GND, 16 VCC

## MBR20200
designator *
footprint MBR20200
pins: 1 A, 2 K

## ME6206
designator U?
power
footprint SOT-23-3
pins: 1 GND, 2 VOUT, 3 VIN

## ME8130
designator U?
pins: 1 GND, 2 CS, 3 BASE, 4 FB, 5 VC, 6 VDD

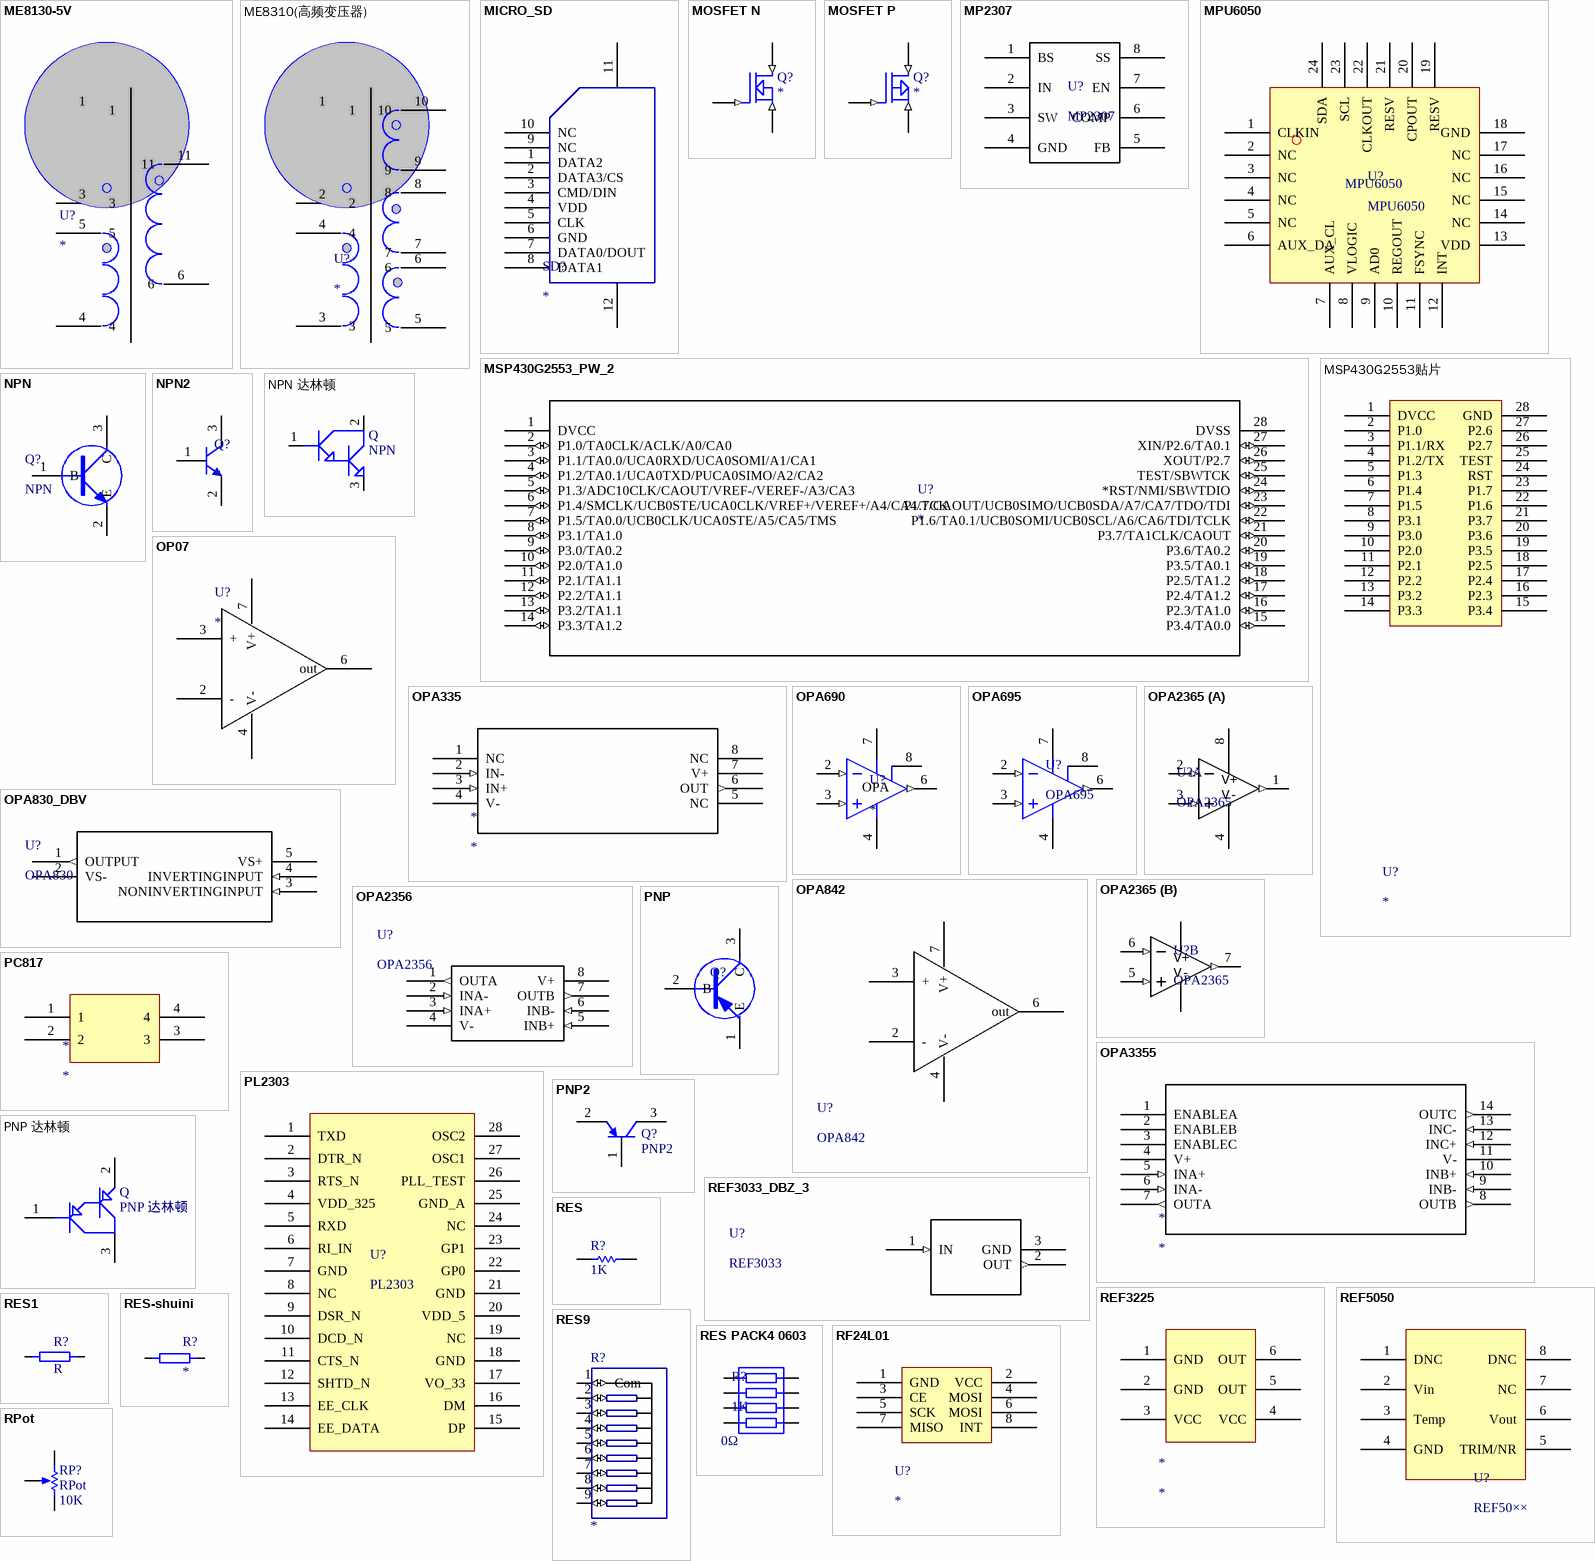
[diagram p4: symbols ME8130-5V to RPot]

## ME8130-5V
designator U?
footprint EFD20
pins: 1, 3, 4, 5, 6, 11

## ME8310(高频变压器)
designator U?
pins: 1, 2, 3, 4, 5, 6, 7, 8, 9, 10

## MICRO_SD
designator SD?
pins: 1 DATA2, 2 DATA3/CS, 3 CMD/DIN, 4 VDD, 5 CLK, 6 GND, 7 DATA0/DOUT, 8 DATA1, 9 NC, 10 NC, 11, 12

## MOSFET N
designator Q?
footprint TO220 (MOS 功率三极管封装)
footprint IRF3205
pins: 1 G (in), 2 D (in), 3 S (in)

## MOSFET P
designator Q?
footprint TO220 (MOS 功率三极管封装)
pins: 1 G (in), 2 D (in), 3 S (in)

## MP2307
designator U?
footprint SOIC-8N (SOIC, 8-Leads, Body 4.9x3.9mm, Pitch 1.27mm, IPC Medium Density)
pins: 1 BS, 2 IN, 3 SW, 4 GND, 5 FB, 6 COMP, 7 EN, 8 SS

## MPU6050
designator U?
footprint QFN-24
pins: 1 CLKIN, 2 NC, 3 NC, 4 NC, 5 NC, 6 AUX_DA, 7 AUX_CL, 8 VLOGIC, 9 AD0, 10 REGOUT, 11 FSYNC, 12 INT, 13 VDD, 14 NC, 15 NC, 16 NC, 17 NC, 18 GND, 19 RESV, 20 CPOUT, 21 RESV, 22 CLKOUT, 23 SCL, 24 SDA

## MSP430G2553_PW_2
designator U?
Imported; Manufacturer_Part_Number: msp430g2553_pw_28; GENERIC_PART_NUMBER: MSP430G2553; Vendor: Texas Instruments; PACKAGE_DESIGNATOR: PW; PIN_COUNT: 28; FAMILY_NAME: Value Line; INDUSTRY_STD_PKG_TYPE: TSSOP; Datasheet URL: http://www.ti.com/lit/gpn/MSP430G2553; Manufacturer: Texas Instruments; RefDes: RefDes; Type: DEV; Value: Value
footprint TSSOP-28
pins: 1 DVCC (power), 2 P1.0/TA0CLK/ACLK/A0/CA0 (io), 3 P1.1/TA0.0/UCA0RXD/UCA0SOMI/A1/CA1 (io), 4 P1.2/TA0.1/UCA0TXD/PUCA0SIMO/A2/CA2 (io), 5 P1.3/ADC10CLK/CAOUT/VREF-/VEREF-/A3/CA3 (io), 6 P1.4/SMCLK/UCB0STE/UCA0CLK/VREF+/VEREF+/A4/CA4/TCK (io), 7 P1.5/TA0.0/UCB0CLK/UCA0STE/A5/CA5/TMS (io), 8 P3.1/TA1.0 (io), 9 P3.0/TA0.2 (io), 10 P2.0/TA1.0 (io), 11 P2.1/TA1.1 (io), 12 P2.2/TA1.1 (io), 13 P3.2/TA1.1 (io), 14 P3.3/TA1.2 (io), 15 P3.4/TA0.0 (io), 16 P2.3/TA1.0 (io), 17 P2.4/TA1.2 (io), 18 P2.5/TA1.2 (io), 19 P3.5/TA0.1 (io), 20 P3.6/TA0.2 (io), 21 P3.7/TA1CLK/CAOUT (io), 22 P1.6/TA0.1/UCB0SOMI/UCB0SCL/A6/CA6/TDI/TCLK (io), 23 P1.7/CAOUT/UCB0SIMO/UCB0SDA/A7/CA7/TDO/TDI (io), 24 *RST/NMI/SBWTDIO (io), 25 TEST/SBWTCK (io), 26 XOUT/P2.7 (io), 27 XIN/P2.6/TA0.1 (io), 28 DVSS (power)

## MSP430G2553贴片
designator U?
pins: 1 DVCC, 2 P1.0, 3 P1.1/RX, 4 P1.2/TX, 5 P1.3, 6 P1.4, 7 P1.5, 8 P3.1, 9 P3.0, 10 P2.0, 11 P2.1, 12 P2.2, 13 P3.2, 14 P3.3, 15 P3.4, 16 P2.3, 17 P2.4, 18 P2.5, 19 P3.5, 20 P3.6, 21 P3.7, 22 P1.6, 23 P1.7, 24 RST, 25 TEST, 26 P2.7, 27 P2.6, 28 GND

## NPN
designator Q?
footprint TO90 (TO-90三极管引脚)
pins: 1 B "Base", 2 E "Emitter", 3 C "Collector"

## NPN2
designator Q?
贴片
footprint SOT-23-3
pins: 1 B, 2 E, 3 C

## NPN 达林顿
designator Q, comment NPN
NPN 达林顿
footprint TO220 (MOS 功率三极管封装)
pins: 1 B, 2 C, 3 E

## OP07
designator U?
footprint DIP-8
footprint SOIC-8
pins: 1 hidden, 2 -, 3 +, 4 V-, 5 hidden, 6 out, 7 V+, 8 hidden

## OPA335
designator *
footprint OPA335
pins: 1 NC, 2 IN- (in), 3 IN+ (in), 4 V- (power), 5 NC, 6 OUT (out), 7 V+ (power), 8 NC

## OPA690
designator U?
footprint SIOC8
pins: 2 IN- (in), 3 IN+ (in), 4 V- (power), 6 OUT (out), 7 V+ (power), 8 ~{DI}S (power)
text: OPA

## OPA695
designator U?
footprint SOIC-8
pins: 2 IN- (in), 3 IN+ (in), 4 V- (power), 6 OUT (out), 7 V+ (power), 8 ~{DI}S (power)

## OPA830_DBV
designator U?, comment OPA830
Imported; Manufacturer: Texas Instruments; Manufacturer_Part_Number: opa830_dbv_5; INDUSTRY_STD_PKG_TYPE: SOT-23; FAMILY_NAME: RAIL TO RAIL; PIN_COUNT: 5; PACKAGE_DESIGNATOR: DBV; Datasheet URL: http://www.ti.com/lit/gpn/OPA830; GENERIC_PART_NUMBER: OPA830; Vendor: Texas Instruments; RefDes: RefDes; Type: DEV; Value: Value
footprint DBV5
pins: 1 OUTPUT (out), 2 VS- (power), 3 NONINVERTINGINPUT (in), 4 INVERTINGINPUT (in), 5 VS+ (power)

## OPA842
designator U?
Imported; Manufacturer: Texas Instruments; Manufacturer_Part_Number: opa842_d_8; INDUSTRY_STD_PKG_TYPE: SOIC; FAMILY_NAME: VOLTAGE FEEDBACK; PIN_COUNT: 8; PACKAGE_DESIGNATOR: D; Datasheet URL: http://www.ti.com/lit/gpn/OPA842; GENERIC_PART_NUMBER: OPA842; Vendor: Texas Instruments; RefDes: RefDes; Type: DEV; Value: Value
footprint SOIC-8
pins: 2 -, 3 +, 4 V-, 6 out, 7 V+

## OPA2356
designator U?
Imported; Manufacturer: Texas Instruments; Manufacturer_Part_Number: opa2356_d_8; INDUSTRY_STD_PKG_TYPE: SOIC; FAMILY_NAME: JFET/CMOS; PIN_COUNT: 8; PACKAGE_DESIGNATOR: D; Datasheet URL: http://www.ti.com/lit/gpn/OPA2356; GENERIC_PART_NUMBER: OPA2356; Vendor: Texas Instruments; RefDes: RefDes; Type: DEV; Value: Value
footprint SOIC-8
pins: 1 OUTA (out), 2 INA- (in), 3 INA+ (in), 4 V- (power), 5 INB+ (in), 6 INB- (in), 7 OUTB (out), 8 V+ (power)

## OPA2365
designator U?
Imported; Manufacturer: Texas Instruments; Manufacturer_Part_Number: opa2365_d_8; INDUSTRY_STD_PKG_TYPE: SOIC; FAMILY_NAME: LOW OFFSET VOLTAGE; PIN_COUNT: 8; PACKAGE_DESIGNATOR: D; Datasheet URL: http://www.ti.com/lit/gpn/OPA2365; GENERIC_PART_NUMBER: OPA2365; Vendor: Texas Instruments; RefDes: RefDes; Type: DEV; Value: Value
footprint SOIC-8N (SOIC, 8-Leads, Body 4.9x3.9mm, Pitch 1.27mm, IPC Medium Density)
part A pins: 1 1OUT (out), 2 1IN- (in), 3 1IN+ (in), 4 V- (power), 8 V+ (power)
part B pins: 5 2IN+ (in), 6 2IN- (in), 7 2OUT (out)

## OPA3355
designator *
footprint OPA3355
pins: 1 ENABLEA, 2 ENABLEB, 3 ENABLEC, 4 V+ (power), 5 INA+ (in), 6 INA- (in), 7 OUTA (out), 8 OUTB (out), 9 INB- (in), 10 INB+ (in), 11 V- (power), 12 INC+ (in), 13 INC- (in), 14 OUTC (out)

## PC817
designator *
pins: 1, 2, 3, 4

## PL2303
designator U?
footprint SSOP28
pins: 1 TXD, 2 DTR_N, 3 RTS_N, 4 VDD_325, 5 RXD, 6 RI_IN, 7 GND, 8 NC, 9 DSR_N, 10 DCD_N, 11 CTS_N, 12 SHTD_N, 13 EE_CLK, 14 EE_DATA, 15 DP, 16 DM, 17 VO_33, 18 GND, 19 NC, 20 VDD_5, 21 GND, 22 GP0, 23 GP1, 24 NC, 25 GND_A, 26 PLL_TEST, 27 OSC1, 28 OSC2

## PNP
designator Q?  (value not drawn)
PNP
footprint TO90 (TO-90三极管引脚)
pins: 1 E "Emitter", 2 B "Base", 3 C "Collector"

## PNP2
designator Q?
贴片; Published: 8-Jun-2000; LatestRevisionDate: 17-Jul-2002; LatestRevisionNote: Re-released for DXP Platform.; PackageReference: SOT-23B; Publisher: Altium Limited; Code_JEDEC: SOT-23
footprint SOT-23-3
pins: 1 B, 2 E, 3 C

## PNP 达林顿
designator Q
footprint TO220 (MOS 功率三极管封装)
pins: 1 B, 2 E, 3 C

## REF3033_DBZ_3
designator U?, comment REF3033
Imported; Manufacturer: Texas Instruments; Manufacturer_Part_Number: ref3033_dbz_3; INDUSTRY_STD_PKG_TYPE: SOT-23; FAMILY_NAME: SERIES VOLTAGE REFERENCE; PIN_COUNT: 3; PACKAGE_DESIGNATOR: DBZ; Datasheet URL: http://www.ti.com/lit/gpn/REF3033; GENERIC_PART_NUMBER: REF3033; Vendor: Texas Instruments; RefDes: RefDes; Type: DEV; Value: Value
footprint DBZ3
pins: 1 IN (in), 2 OUT (out), 3 GND (power)

## REF3225
designator *
footprint REF3225
pins: 1 GND, 2 GND, 3 VCC, 4 VCC, 5 OUT, 6 OUT

## REF5050
designator U?, comment REF50××
REF50××系列参考稳压
footprint SOIC-8
pins: 1 DNC, 2 Vin, 3 Temp, 4 GND, 5 TRIM/NR, 6 Vout, 7 NC, 8 DNC

## RES
designator R?, comment 1K
Resistor; Published: 8-Jun-2000; Revision: July-2002: Re-released for DXP Platform.; Publisher: Altium Limited; Value: 1K
footprint 0805_r
footprint 0603_R
pins: 1, 2
2 alternate drawings of the same symbol

## RES1
designator R?, comment R
footprint AXIAL-0.25W (0.25W普通电阻)
footprint AXIAL-2W (1W,2W的功率电阻)
pins: 1, 2

## RES9
designator R?
排阻
footprint RES-9pin
pins: 1 Com (io), 2 (io), 3 (io), 4 (io), 5 (io), 6 (io), 7 (io), 8 (io), 9 (io)

## RES PACK4 0603
designator R?, comment 1K  value 0Ω
footprint RES-PACK0603
pins: 1, 2, 3, 4, 5, 6, 7, 8

## RES-shuini
designator R?
footprint DIODE-4.0
pins: 1, 2

## RF24L01
designator U?
pins: 1 GND, 2 VCC, 3 CE, 4 MOSI, 5 SCK, 6 MOSI, 7 MISO, 8 INT

## RPot
designator RP?  value 10K
Potentiometer; Sim Note: Enter the Resistance value and the set point into parameter fields.; Set Position: 0.5; Published: 8-Jun-2000; LatestRevisionDate: 17-Jul-2002; LatestRevisionNote: Re-released for DXP Platform.; PackageReference: VR5; Publisher: Altium Limited
footprint RPot (Potentiometer; 3 Leads)
footprint RPOT_3
pins: 1 TOP, 2 TAP, 3 BOT
1 alternate drawing of the same symbol

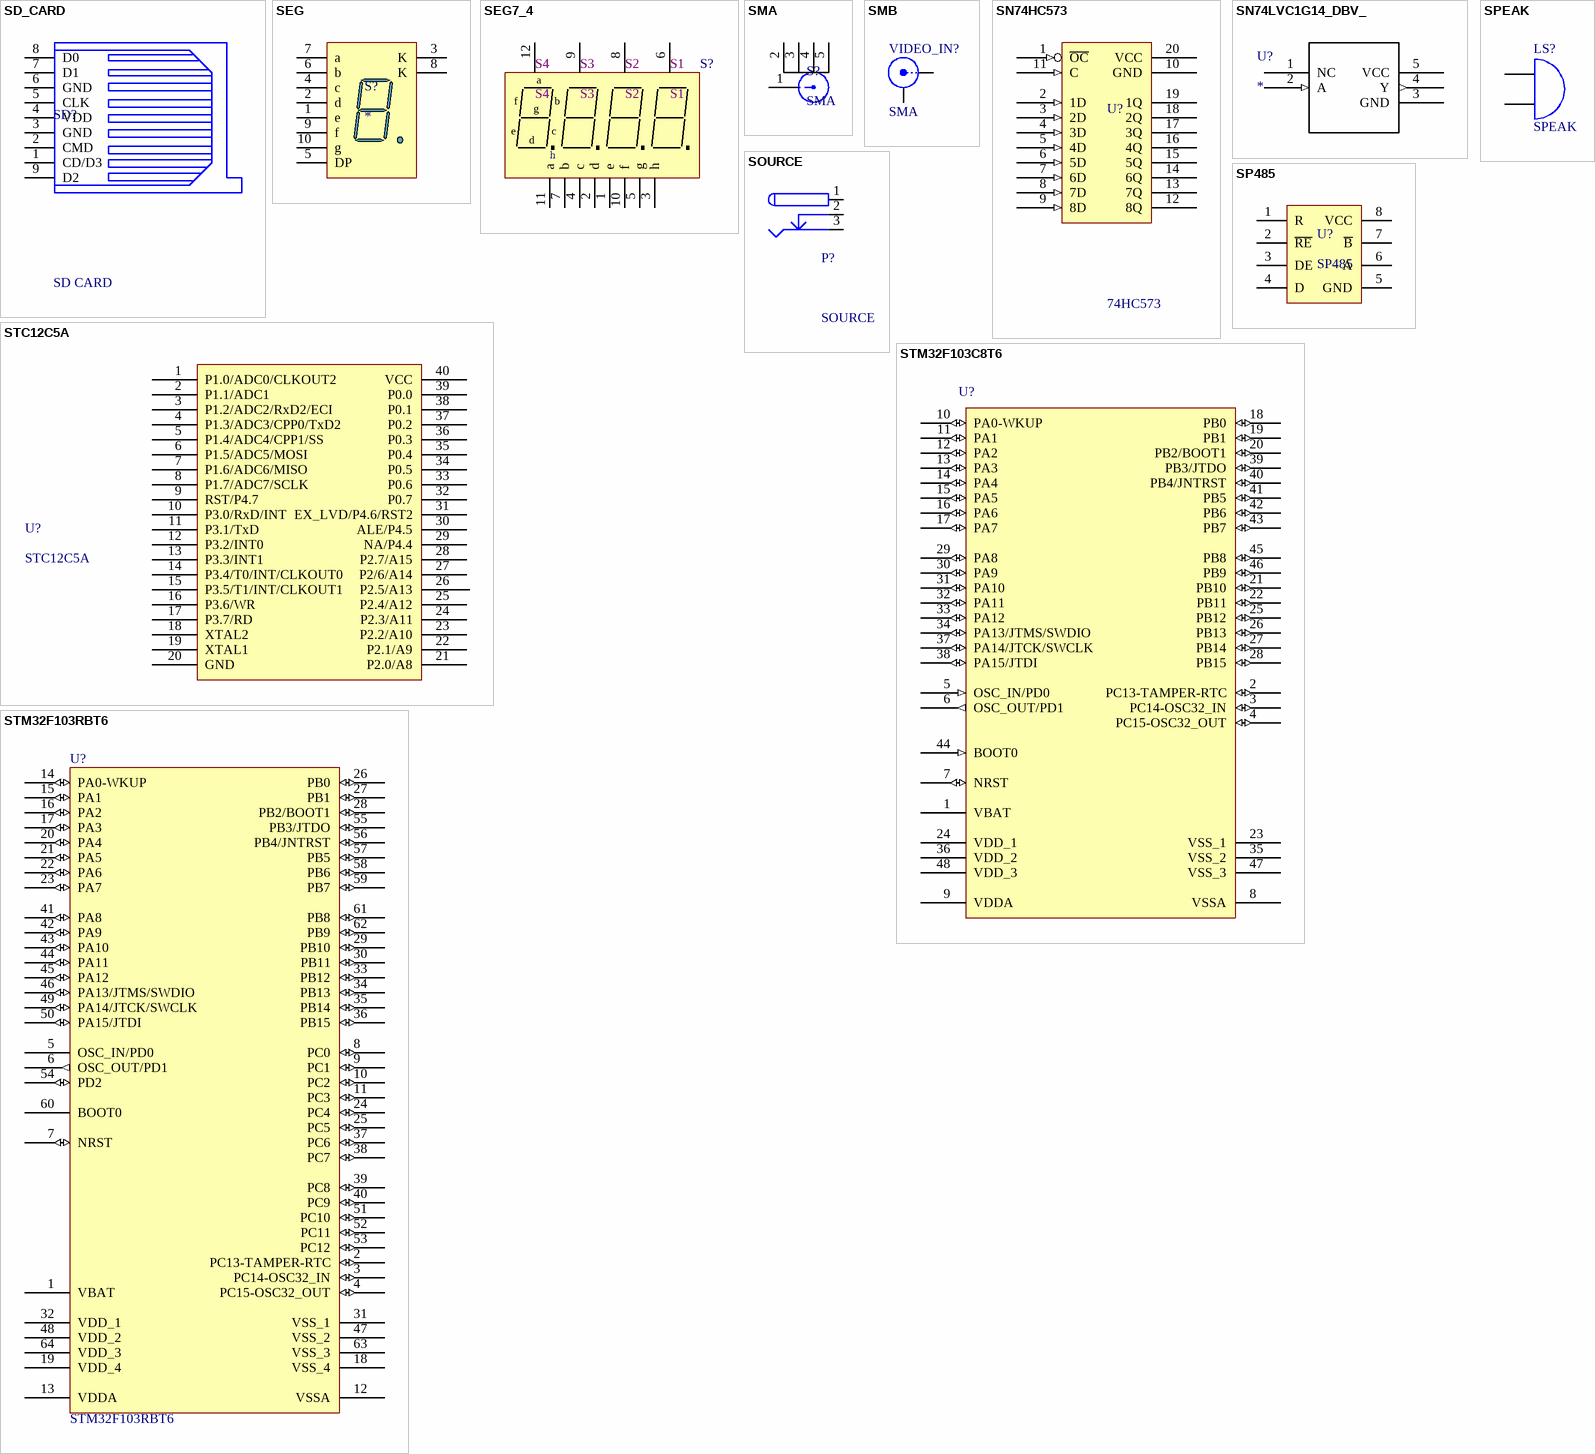
[diagram p5: symbols SD_CARD to STM32F103RBT6]

## SD_CARD
designator SD?, comment SD CARD
footprint SD_CARD
pins: 1 CD/D3, 2 CMD, 3 GND, 4 VDD, 5 CLK, 6 GND, 7 D1, 8 D0, 9 D2
2 alternate drawings of the same symbol

## SEG
designator S?
footprint SEG (LED, 7-Segment Display, 14.2 mm, RHD; 10 Leads; Row Space 15.24 mm; Pitch 2.54 mm)
pins: 1 e "Anode", 2 d "Anode", 3 K "Common Cathode", 4 c "Anode", 5 DP "Anode", 6 b "Anode", 7 a "Anode", 8 K "Common Cathode", 9 f "Anode", 10 g "Anode"

## SEG7_4
designator S?  (value not drawn)
4位共阴数码管
footprint SEG7_4
pins: 1 e, 2 d, 3 h, 4 c, 5 g, 6 COM1, 7 b, 8 COM2, 9 COM3, 10 f, 11 a, 12 COM4
text: S4; S3; S2; S1

## SMA
designator S?  (graphical)
footprint SMA
pins: 1 vcc, 2 GND, 3 GND, 4 GND, 5 GND

## SMB
designator VIDEO_IN?, comment SMA
SMB Straight Connector; LatestRevisionDate: 17-Jul-2002; LatestRevisionNote: Re-released for DXP Platform.; Publisher: Altium Limited
signal-integrity model Connector
footprint SMB
pins: 1 X, 2 Y

## SN74HC573
designator U?, comment 74HC573
OCTAL D-TYPE TRANSPARENT LCH 3SO
footprint DIP-20
pins: 1 ~{OC} (in), 2 1D (in), 3 2D (in), 4 3D (in), 5 4D (in), 6 5D (in), 7 6D (in), 8 7D (in), 9 8D (in), 10 GND, 11 C (in), 12 8Q (hiz), 13 7Q (hiz), 14 6Q (hiz), 15 5Q (hiz), 16 4Q (hiz), 17 3Q (hiz), 18 2Q (hiz), 19 1Q (hiz), 20 VCC
1 alternate drawing of the same symbol

## SN74LVC1G14_DBV_
designator U?
Imported; Manufacturer: Texas Instruments; GENERIC_PART_NUMBER: SN74LVC1G14; Manufacturer_Part_Number: sn74lvc1g14_dbv_5; INDUSTRY_STD_PKG_TYPE: SOT-23; FAMILY_NAME: LL INVERTER; PIN_COUNT: 5; PACKAGE_DESIGNATOR: DBV; Datasheet URL: http://www.ti.com/lit/gpn/SN74LVC1G14; Vendor: Texas Instruments; RefDes: RefDes; Type: DEV; Value: Value
footprint DBV5
pins: 1 NC, 2 A (in), 3 GND (power), 4 Y (out), 5 VCC (power)

## SOURCE
designator P?
LatestRevisionDate: 17-Jul-2002; LatestRevisionNote: Re-released for DXP Platform.; Publisher: Altium Limited
footprint source (DC Power Jack, 2.5mm, KLD Series, PCB Mount)
pins: 1 (power), 2 (power), 3 (power)

## SP485
designator U?
footprint SOIC-8
footprint DIP-8
pins: 1 R, 2 ~{RE}, 3 DE, 4 D, 5 GND, 6 A, 7 ~{B}, 8 VCC

## SPEAK
designator LS?
Electrical Bell; Published: 24-Mar-1999; LatestRevisionDate: 17-Jul-2002; LatestRevisionNote: Re-released for DXP Platform.; PackageReference: PIN2; Publisher: Altium Limited
footprint SPEAK
pins: 1 A, 2 B

## STC12C5A
designator U?
MCU_P40
footprint 80C51 (MCU_P40)
pins: 1 P1.0/ADC0/CLKOUT2, 2 P1.1/ADC1, 3 P1.2/ADC2/RxD2/ECI, 4 P1.3/ADC3/CPP0/TxD2, 5 P1.4/ADC4/CPP1/SS, 6 P1.5/ADC5/MOSI, 7 P1.6/ADC6/MISO, 8 P1.7/ADC7/SCLK, 9 RST/P4.7, 10 P3.0/RxD/INT, 11 P3.1/TxD, 12 P3.2/INT0, 13 P3.3/INT1, 14 P3.4/T0/INT/CLKOUT0, 15 P3.5/T1/INT/CLKOUT1, 16 P3.6/WR, 17 P3.7/RD, 18 XTAL2, 19 XTAL1, 20 GND, 21 P2.0/A8, 22 P2.1/A9, 23 P2.2/A10, 24 P2.3/A11, 25 P2.4/A12, 26 P2.5/A13, 27 P2/6/A14, 28 P2.7/A15, 29 NA/P4.4, 30 ALE/P4.5, 31 EX_LVD/P4.6/RST2, 32 P0.7, 33 P0.6, 34 P0.5, 35 P0.4, 36 P0.3, 37 P0.2, 38 P0.1, 39 P0.0, 40 VCC

## STM32F103C8T6
designator U?
STM32 ARM-based 32-bit MCU with 64 Kbytes Flash, 48-pin LQFP, Industrial Temperature; Published: 30-May-2008; DatasheetVersion: rev6, Mar-2008; PackageVersion: Mar-2008; PackageReference: LQFP48; Publisher: Altium Limited; PackageDescription: 48-Pin Low-Profile Quad Flat Pack, 7 x 7 mm Body, 0.5 mm Pitch (LQFP48); ComponentLink1Description: Manufacturer Link; ComponentLink1URL: www.st.com/stm32; ComponentLink2Description: Datasheet; ComponentLink2URL: http://www.st.com/stonline/products/literature/ds/13587.pdf
footprint LQFP48
pins: 1 VBAT (power), 2 PC13-TAMPER-RTC (io), 3 PC14-OSC32_IN (io), 4 PC15-OSC32_OUT (io), 5 OSC_IN/PD0 (in), 6 OSC_OUT/PD1 (out), 7 NRST (io), 8 VSSA (power), 9 VDDA (power), 10 PA0-WKUP (io), 11 PA1 (io), 12 PA2 (io), 13 PA3 (io), 14 PA4 (io), 15 PA5 (io), 16 PA6 (io), 17 PA7 (io), 18 PB0 (io), 19 PB1 (io), 20 PB2/BOOT1 (io), 21 PB10 (io), 22 PB11 (io), 23 VSS_1 (power), 24 VDD_1 (power), 25 PB12 (io), 26 PB13 (io), 27 PB14 (io), 28 PB15 (io), 29 PA8 (io), 30 PA9 (io), 31 PA10 (io), 32 PA11 (io), 33 PA12 (io), 34 PA13/JTMS/SWDIO (io), 35 VSS_2 (power), 36 VDD_2 (power), 37 PA14/JTCK/SWCLK (io), 38 PA15/JTDI (io), 39 PB3/JTDO (io), 40 PB4/JNTRST (io), 41 PB5 (io), 42 PB6 (io), 43 PB7 (io), 44 BOOT0 (in), 45 PB8 (io), 46 PB9 (io), 47 VSS_3 (power), 48 VDD_3 (power)

## STM32F103RBT6
designator U?
STM32 ARM-based 32-bit MCU with 128 Kbytes Flash, 64-pin LQFP, Industrial Temperature; Published: 30-May-2008; DatasheetVersion: rev6, Mar-2008; PackageVersion: Mar-2008; PackageReference: LQFP64; Publisher: Altium Limited; PackageDescription: 64-Pin Low-Profile Quad Flat Pack, 10 x 10 mm Body, 0.5 mm Pitch (LQFP64); ComponentLink1Description: Manufacturer Link; ComponentLink1URL: www.st.com/stm32; ComponentLink2Description: Datasheet; ComponentLink2URL: http://www.st.com/stonline/products/literature/ds/13587.pdf
footprint LQFP64 (中等容量RBT6)
pins: 1 VBAT (power), 2 PC13-TAMPER-RTC (io), 3 PC14-OSC32_IN (io), 4 PC15-OSC32_OUT (io), 5 OSC_IN/PD0, 6 OSC_OUT/PD1 (out), 7 NRST (io), 8 PC0 (io), 9 PC1 (io), 10 PC2 (io), 11 PC3 (io), 12 VSSA (power), 13 VDDA (power), 14 PA0-WKUP (io), 15 PA1 (io), 16 PA2 (io), 17 PA3 (io), 18 VSS_4 (power), 19 VDD_4 (power), 20 PA4 (io), 21 PA5 (io), 22 PA6 (io), 23 PA7 (io), 24 PC4 (io), 25 PC5 (io), 26 PB0 (io), 27 PB1 (io), 28 PB2/BOOT1 (io), 29 PB10 (io), 30 PB11 (io), 31 VSS_1 (power), 32 VDD_1 (power), 33 PB12 (io), 34 PB13 (io), 35 PB14 (io), 36 PB15 (io), 37 PC6 (io), 38 PC7 (io), 39 PC8 (io), 40 PC9 (io), 41 PA8 (io), 42 PA9 (io), 43 PA10 (io), 44 PA11 (io), 45 PA12 (io), 46 PA13/JTMS/SWDIO (io), 47 VSS_2 (power), 48 VDD_2 (power), 49 PA14/JTCK/SWCLK (io), 50 PA15/JTDI (io), 51 PC10 (io), 52 PC11 (io), 53 PC12 (io), 54 PD2 (io), 55 PB3/JTDO (io), 56 PB4/JNTRST (io), 57 PB5 (io), 58 PB6 (io), 59 PB7 (io), 60 BOOT0, 61 PB8 (io), 62 PB9 (io), 63 VSS_3 (power), 64 VDD_3 (power)

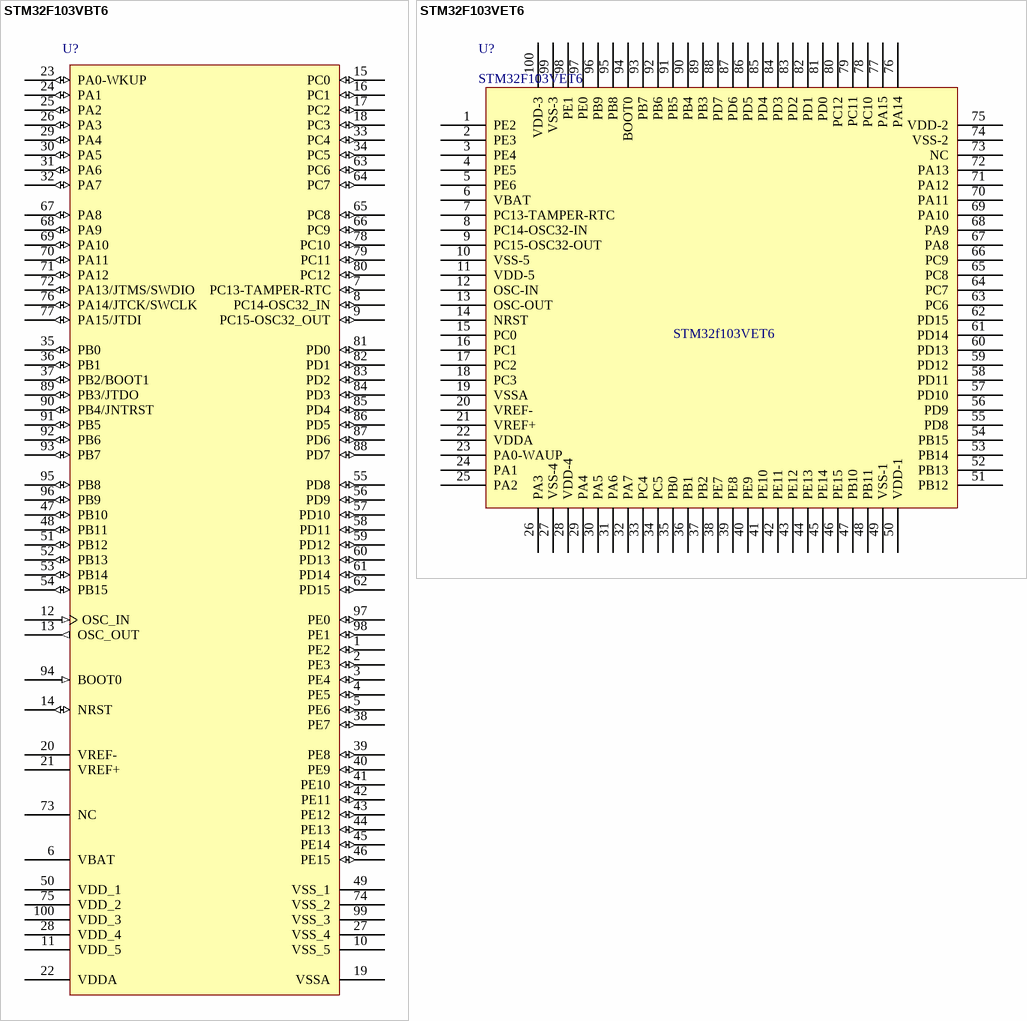
[diagram p6: symbols STM32F103VBT6 to STM32F103VET6]

## STM32F103VBT6
designator U?
STM32 ARM-based 32-bit MCU with 64 Kbytes Flash, 100-pin LQFP, Industrial Temperature; Published: 30-May-2008; DatasheetVersion: rev6, Mar-2008; PackageVersion: Mar-2008; PackageReference: LQFP100; Publisher: Altium Limited; PackageDescription: 100-Pin Low-Profile Quad Flat Pack, 14 x 14 mm Body, 0.5 mm Pitch (LQFP100); ComponentLink1Description: Manufacturer Link; ComponentLink1URL: www.st.com/stm32; ComponentLink2Description: Datasheet; ComponentLink2URL: http://www.st.com/stonline/products/literature/ds/13587.pdf
footprint LQFP100
pins: 1 PE2 (io), 2 PE3 (io), 3 PE4 (io), 4 PE5 (io), 5 PE6 (io), 6 VBAT (power), 7 PC13-TAMPER-RTC (io), 8 PC14-OSC32_IN (io), 9 PC15-OSC32_OUT (io), 10 VSS_5 (power), 11 VDD_5 (power), 12 OSC_IN (in), 13 OSC_OUT (out), 14 NRST (io), 15 PC0 (io), 16 PC1 (io), 17 PC2 (io), 18 PC3 (io), 19 VSSA (power), 20 VREF- (power), 21 VREF+ (power), 22 VDDA (power), 23 PA0-WKUP (io), 24 PA1 (io), 25 PA2 (io), 26 PA3 (io), 27 VSS_4 (power), 28 VDD_4 (power), 29 PA4 (io), 30 PA5 (io), 31 PA6 (io), 32 PA7 (io), 33 PC4 (io), 34 PC5 (io), 35 PB0 (io), 36 PB1 (io), 37 PB2/BOOT1 (io), 38 PE7 (io), 39 PE8 (io), 40 PE9 (io), 41 PE10 (io), 42 PE11 (io), 43 PE12 (io), 44 PE13 (io), 45 PE14 (io), 46 PE15 (io), 47 PB10 (io), 48 PB11 (io), 49 VSS_1 (power), 50 VDD_1 (power), 51 PB12 (io), 52 PB13 (io), 53 PB14 (io), 54 PB15 (io), 55 PD8 (io), 56 PD9 (io), 57 PD10 (io), 58 PD11 (io), 59 PD12 (io), 60 PD13 (io), 61 PD14 (io), 62 PD15 (io), 63 PC6 (io), 64 PC7 (io), 65 PC8 (io), 66 PC9 (io), 67 PA8 (io), 68 PA9 (io), 69 PA10 (io), 70 PA11 (io), 71 PA12 (io), 72 PA13/JTMS/SWDIO (io), 73 NC, 74 VSS_2 (power), 75 VDD_2 (power), 76 PA14/JTCK/SWCLK (io), 77 PA15/JTDI (io), 78 PC10 (io), 79 PC11 (io), 80 PC12 (io), 81 PD0 (io), 82 PD1 (io), 83 PD2 (io), 84 PD3 (io), 85 PD4 (io), 86 PD5 (io), 87 PD6 (io), 88 PD7 (io), 89 PB3/JTDO (io), 90 PB4/JNTRST (io), 91 PB5 (io), 92 PB6 (io), 93 PB7 (io), 94 BOOT0 (in), 95 PB8 (io), 96 PB9 (io), 97 PE0 (io), 98 PE1 (io), 99 VSS_3 (power), 100 VDD_3 (power)

## STM32F103VET6
designator U?
footprint LQFP100
pins: 1 PE2, 2 PE3, 3 PE4, 4 PE5, 5 PE6, 6 VBAT, 7 PC13-TAMPER-RTC, 8 PC14-OSC32-IN, 9 PC15-OSC32-OUT, 10 VSS-5, 11 VDD-5, 12 OSC-IN, 13 OSC-OUT, 14 NRST, 15 PC0, 16 PC1, 17 PC2, 18 PC3, 19 VSSA, 20 VREF-, 21 VREF+, 22 VDDA, 23 PA0-WAUP, 24 PA1, 25 PA2, 26 PA3, 27 VSS-4, 28 VDD-4, 29 PA4, 30 PA5, 31 PA6, 32 PA7, 33 PC4, 34 PC5, 35 PB0, 36 PB1, 37 PB2, 38 PE7, 39 PE8, 40 PE9, 41 PE10, 42 PE11, 43 PE12, 44 PE13, 45 PE14, 46 PE15, 47 PB10, 48 PB11, 49 VSS-1, 50 VDD-1, 51 PB12, 52 PB13, 53 PB14, 54 PB15, 55 PD8, 56 PD9, 57 PD10, 58 PD11, 59 PD12, 60 PD13, 61 PD14, 62 PD15, 63 PC6, 64 PC7, 65 PC8, 66 PC9, 67 PA8, 68 PA9, 69 PA10, 70 PA11, 71 PA12, 72 PA13, 73 NC, 74 VSS-2, 75 VDD-2, 76 PA14, 77 PA15, 78 PC10, 79 PC11, 80 PC12, 81 PD0, 82 PD1, 83 PD2, 84 PD3, 85 PD4, 86 PD5, 87 PD6, 88 PD7, 89 PB3, 90 PB4, 91 PB5, 92 PB6, 93 PB7, 94 BOOT0, 95 PB8, 96 PB9, 97 PE0, 98 PE1, 99 VSS-3, 100 VDD-3
text: STM32f103VET6

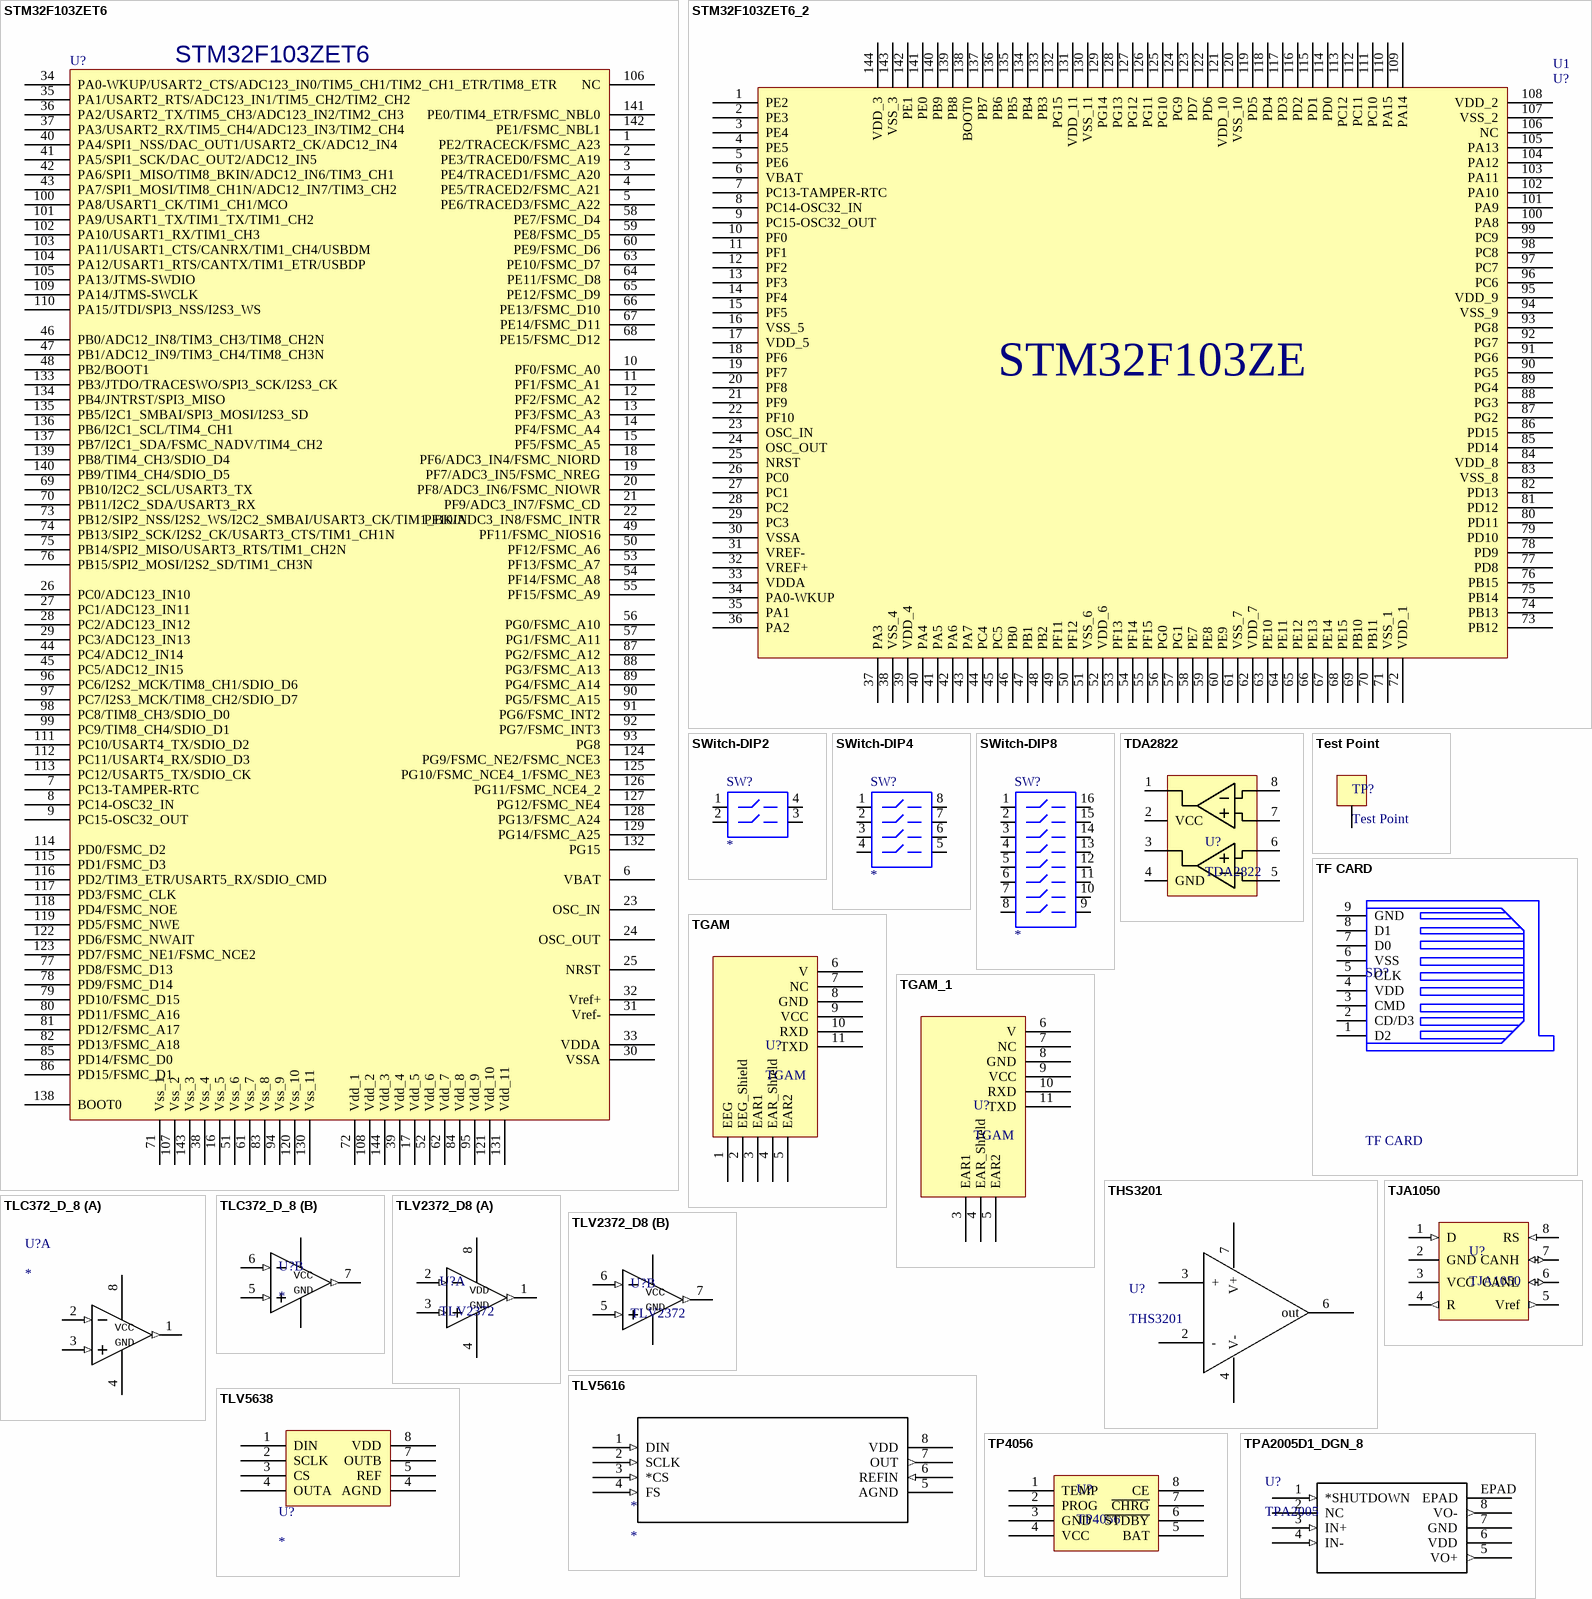
[diagram p7: symbols STM32F103ZET6 to TPA2005D1_DGN_8]

## STM32F103ZET6
designator U?
footprint LQFP144
pins: 1 PE2/TRACECK/FSMC_A23, 2 PE3/TRACED0/FSMC_A19, 3 PE4/TRACED1/FSMC_A20, 4 PE5/TRACED2/FSMC_A21, 5 PE6/TRACED3/FSMC_A22, 6 VBAT, 7 PC13-TAMPER-RTC, 8 PC14-OSC32_IN, 9 PC15-OSC32_OUT, 10 PF0/FSMC_A0, 11 PF1/FSMC_A1, 12 PF2/FSMC_A2, 13 PF3/FSMC_A3, 14 PF4/FSMC_A4, 15 PF5/FSMC_A5, 16 Vss_5, 17 Vdd_5, 18 PF6/ADC3_IN4/FSMC_NIORD, 19 PF7/ADC3_IN5/FSMC_NREG, 20 PF8/ADC3_IN6/FSMC_NIOWR, 21 PF9/ADC3_IN7/FSMC_CD, 22 PF10/ADC3_IN8/FSMC_INTR, 23 OSC_IN, 24 OSC_OUT, 25 NRST, 26 PC0/ADC123_IN10, 27 PC1/ADC123_IN11, 28 PC2/ADC123_IN12, 29 PC3/ADC123_IN13, 30 VSSA, 31 Vref-, 32 Vref+, 33 VDDA, 34 PA0-WKUP/USART2_CTS/ADC123_IN0/TIM5_CH1/TIM2_CH1_ETR/TIM8_ETR, 35 PA1/USART2_RTS/ADC123_IN1/TIM5_CH2/TIM2_CH2, 36 PA2/USART2_TX/TIM5_CH3/ADC123_IN2/TIM2_CH3, 37 PA3/USART2_RX/TIM5_CH4/ADC123_IN3/TIM2_CH4, 38 Vss_4, 39 Vdd_4, 40 PA4/SPI1_NSS/DAC_OUT1/USART2_CK/ADC12_IN4, 41 PA5/SPI1_SCK/DAC_OUT2/ADC12_IN5, 42 PA6/SPI1_MISO/TIM8_BKIN/ADC12_IN6/TIM3_CH1, 43 PA7/SPI1_MOSI/TIM8_CH1N/ADC12_IN7/TIM3_CH2, 44 PC4/ADC12_IN14, 45 PC5/ADC12_IN15, 46 PB0/ADC12_IN8/TIM3_CH3/TIM8_CH2N, 47 PB1/ADC12_IN9/TIM3_CH4/TIM8_CH3N, 48 PB2/BOOT1, 49 PF11/FSMC_NIOS16, 50 PF12/FSMC_A6, 51 Vss_6, 52 Vdd_6, 53 PF13/FSMC_A7, 54 PF14/FSMC_A8, 55 PF15/FSMC_A9, 56 PG0/FSMC_A10, 57 PG1/FSMC_A11, 58 PE7/FSMC_D4, 59 PE8/FSMC_D5, 60 PE9/FSMC_D6, 61 Vss_7, 62 Vdd_7, 63 PE10/FSMC_D7, 64 PE11/FSMC_D8, 65 PE12/FSMC_D9, 66 PE13/FSMC_D10, 67 PE14/FSMC_D11, 68 PE15/FSMC_D12, 69 PB10/I2C2_SCL/USART3_TX, 70 PB11/I2C2_SDA/USART3_RX, 71 Vss_1, 72 Vdd_1, 73 PB12/SIP2_NSS/I2S2_WS/I2C2_SMBAI/USART3_CK/TIM1_BKIN, 74 PB13/SIP2_SCK/I2S2_CK/USART3_CTS/TIM1_CH1N, 75 PB14/SPI2_MISO/USART3_RTS/TIM1_CH2N, 76 PB15/SPI2_MOSI/I2S2_SD/TIM1_CH3N, 77 PD8/FSMC_D13, 78 PD9/FSMC_D14, 79 PD10/FSMC_D15, 80 PD11/FSMC_A16, 81 PD12/FSMC_A17, 82 PD13/FSMC_A18, 83 Vss_8, 84 Vdd_8, 85 PD14/FSMC_D0, 86 PD15/FSMC_D1, 87 PG2/FSMC_A12, 88 PG3/FSMC_A13, 89 PG4/FSMC_A14, 90 PG5/FSMC_A15, 91 PG6/FSMC_INT2, 92 PG7/FSMC_INT3, 93 PG8, 94 Vss_9, 95 Vdd_9, 96 PC6/I2S2_MCK/TIM8_CH1/SDIO_D6, 97 PC7/I2S3_MCK/TIM8_CH2/SDIO_D7, 98 PC8/TIM8_CH3/SDIO_D0, 99 PC9/TIM8_CH4/SDIO_D1, 100 PA8/USART1_CK/TIM1_CH1/MCO, 101 PA9/USART1_TX/TIM1_TX/TIM1_CH2, 102 PA10/USART1_RX/TIM1_CH3, 103 PA11/USART1_CTS/CANRX/TIM1_CH4/USBDM, 104 PA12/USART1_RTS/CANTX/TIM1_ETR/USBDP, 105 PA13/JTMS-SWDIO, 106 NC, 107 Vss_2, 108 Vdd_2, 109 PA14/JTMS-SWCLK, 110 PA15/JTDI/SPI3_NSS/I2S3_WS, 111 PC10/USART4_TX/SDIO_D2, 112 PC11/USART4_RX/SDIO_D3, 113 PC12/USART5_TX/SDIO_CK, 114 PD0/FSMC_D2, 115 PD1/FSMC_D3, 116 PD2/TIM3_ETR/USART5_RX/SDIO_CMD, 117 PD3/FSMC_CLK, 118 PD4/FSMC_NOE, 119 PD5/FSMC_NWE, 120 Vss_10, 121 Vdd_10, 122 PD6/FSMC_NWAIT, 123 PD7/FSMC_NE1/FSMC_NCE2, 124 PG9/FSMC_NE2/FSMC_NCE3, 125 PG10/FSMC_NCE4_1/FSMC_NE3, 126 PG11/FSMC_NCE4_2, 127 PG12/FSMC_NE4, 128 PG13/FSMC_A24, 129 PG14/FSMC_A25, 130 Vss_11, 131 Vdd_11, 132 PG15, 133 PB3/JTDO/TRACESWO/SPI3_SCK/I2S3_CK, 134 PB4/JNTRST/SPI3_MISO, 135 PB5/I2C1_SMBAI/SPI3_MOSI/I2S3_SD, 136 PB6/I2C1_SCL/TIM4_CH1, 137 PB7/I2C1_SDA/FSMC_NADV/TIM4_CH2, 138 BOOT0, 139 PB8/TIM4_CH3/SDIO_D4, 140 PB9/TIM4_CH4/SDIO_D5, 141 PE0/TIM4_ETR/FSMC_NBL0, 142 PE1/FSMC_NBL1, 143 Vss_3, 144 Vdd_3

## STM32F103ZET6_2
designator U?, comment U1
footprint LQFP144
pins: 1 PE2, 2 PE3, 3 PE4, 4 PE5, 5 PE6, 6 VBAT, 7 PC13-TAMPER-RTC, 8 PC14-OSC32_IN, 9 PC15-OSC32_OUT, 10 PF0, 11 PF1, 12 PF2, 13 PF3, 14 PF4, 15 PF5, 16 VSS_5, 17 VDD_5, 18 PF6, 19 PF7, 20 PF8, 21 PF9, 22 PF10, 23 OSC_IN, 24 OSC_OUT, 25 NRST, 26 PC0, 27 PC1, 28 PC2, 29 PC3, 30 VSSA, 31 VREF-, 32 VREF+, 33 VDDA, 34 PA0-WKUP, 35 PA1, 36 PA2, 37 PA3, 38 VSS_4, 39 VDD_4, 40 PA4, 41 PA5, 42 PA6, 43 PA7, 44 PC4, 45 PC5, 46 PB0, 47 PB1, 48 PB2, 49 PF11, 50 PF12, 51 VSS_6, 52 VDD_6, 53 PF13, 54 PF14, 55 PF15, 56 PG0, 57 PG1, 58 PE7, 59 PE8, 60 PE9, 61 VSS_7, 62 VDD_7, 63 PE10, 64 PE11, 65 PE12, 66 PE13, 67 PE14, 68 PE15, 69 PB10, 70 PB11, 71 VSS_1, 72 VDD_1, 73 PB12, 74 PB13, 75 PB14, 76 PB15, 77 PD8, 78 PD9, 79 PD10, 80 PD11, 81 PD12, 82 PD13, 83 VSS_8, 84 VDD_8, 85 PD14, 86 PD15, 87 PG2, 88 PG3, 89 PG4, 90 PG5, 91 PG6, 92 PG7, 93 PG8, 94 VSS_9, 95 VDD_9, 96 PC6, 97 PC7, 98 PC8, 99 PC9, 100 PA8, 101 PA9, 102 PA10, 103 PA11, 104 PA12, 105 PA13, 106 NC, 107 VSS_2, 108 VDD_2, 109 PA14, 110 PA15, 111 PC10, 112 PC11, 113 PC12, 114 PD0, 115 PD1, 116 PD2, 117 PD3, 118 PD4, 119 PD5, 120 VSS_10, 121 VDD_10, 122 PD6, 123 PD7, 124 PG9, 125 PG10, 126 PG11, 127 PG12, 128 PG13, 129 PG14, 130 VSS_11, 131 VDD_11, 132 PG15, 133 PB3, 134 PB4, 135 PB5, 136 PB6, 137 PB7, 138 BOOT0, 139 PB8, 140 PB9, 141 PE0, 142 PE1, 143 VSS_3, 144 VDD_3
text: STM32F103ZE

## SWitch-DIP2
designator SW?
pins: 1, 2, 3, 4

## SWitch-DIP4
designator SW?
footprint switch DIP-8
pins: 1, 2, 3, 4, 5, 6, 7, 8

## SWitch-DIP8
designator SW?
footprint DIP16
pins: 1, 2, 3, 4, 5, 6, 7, 8, 9, 10, 11, 12, 13, 14, 15, 16

## TDA2822
designator U?
footprint DIP-8
pins: 1 Vo1, 2 VCC, 3 Vo2, 4 GND, 5 VIN-2, 6 VIN+2, 7 VIN+1, 8 VIN-1

## Test Point
designator TP?
footprint Test Point
pins: 0 1

## TF CARD
designator SD?
footprint TF卡座 翻盖式
pins: 1 D2, 2 CD/D3, 3 CMD, 4 VDD, 5 CLK, 6 VSS, 7 D0, 8 D1, 9 GND
2 alternate drawings of the same symbol

## TGAM
designator U?
TGAM 模块
footprint TGAM
pins: 1 EEG, 2 EEG_Shield, 3 EAR1, 4 EAR_Shield, 5 EAR2, 6 V, 7 NC, 8 GND, 9 VCC, 10 RXD, 11 TXD

## TGAM_1
designator U?, comment TGAM
TGAM 模块
footprint TGAM_1
pins: 3 EAR1, 4 EAR_Shield, 5 EAR2, 6 V, 7 NC, 8 GND, 9 VCC, 10 RXD, 11 TXD

## THS3201
designator U?
Imported; Manufacturer_Part_Number: ths3201_d_8; Vendor: Texas Instruments; PACKAGE_DESIGNATOR: D; PIN_COUNT: 8; FAMILY_NAME: CURRENT FEEDBACK; INDUSTRY_STD_PKG_TYPE: SOIC; GENERIC_PART_NUMBER: THS3201; Datasheet URL: http://www.ti.com/lit/gpn/THS3201; Manufacturer: Texas Instruments; RefDes: RefDes; Type: DEV; Value: Value
footprint SOIC-8
pins: 2 -, 3 +, 4 V-, 6 out, 7 V+

## TJA1050
designator U?
footprint SOIC-8
pins: 1 D (in), 2 GND, 3 VCC, 4 R (out), 5 Vref (out), 6 CANL (io), 7 CANH (io), 8 RS (in)